# Altium schematic symbol library ALCT_MEZ_SPARTAN6_Library.SchLib: 214 symbols (part 1 of 7)
Pins are listed as number, name and electrical type; pins without a type are passive.

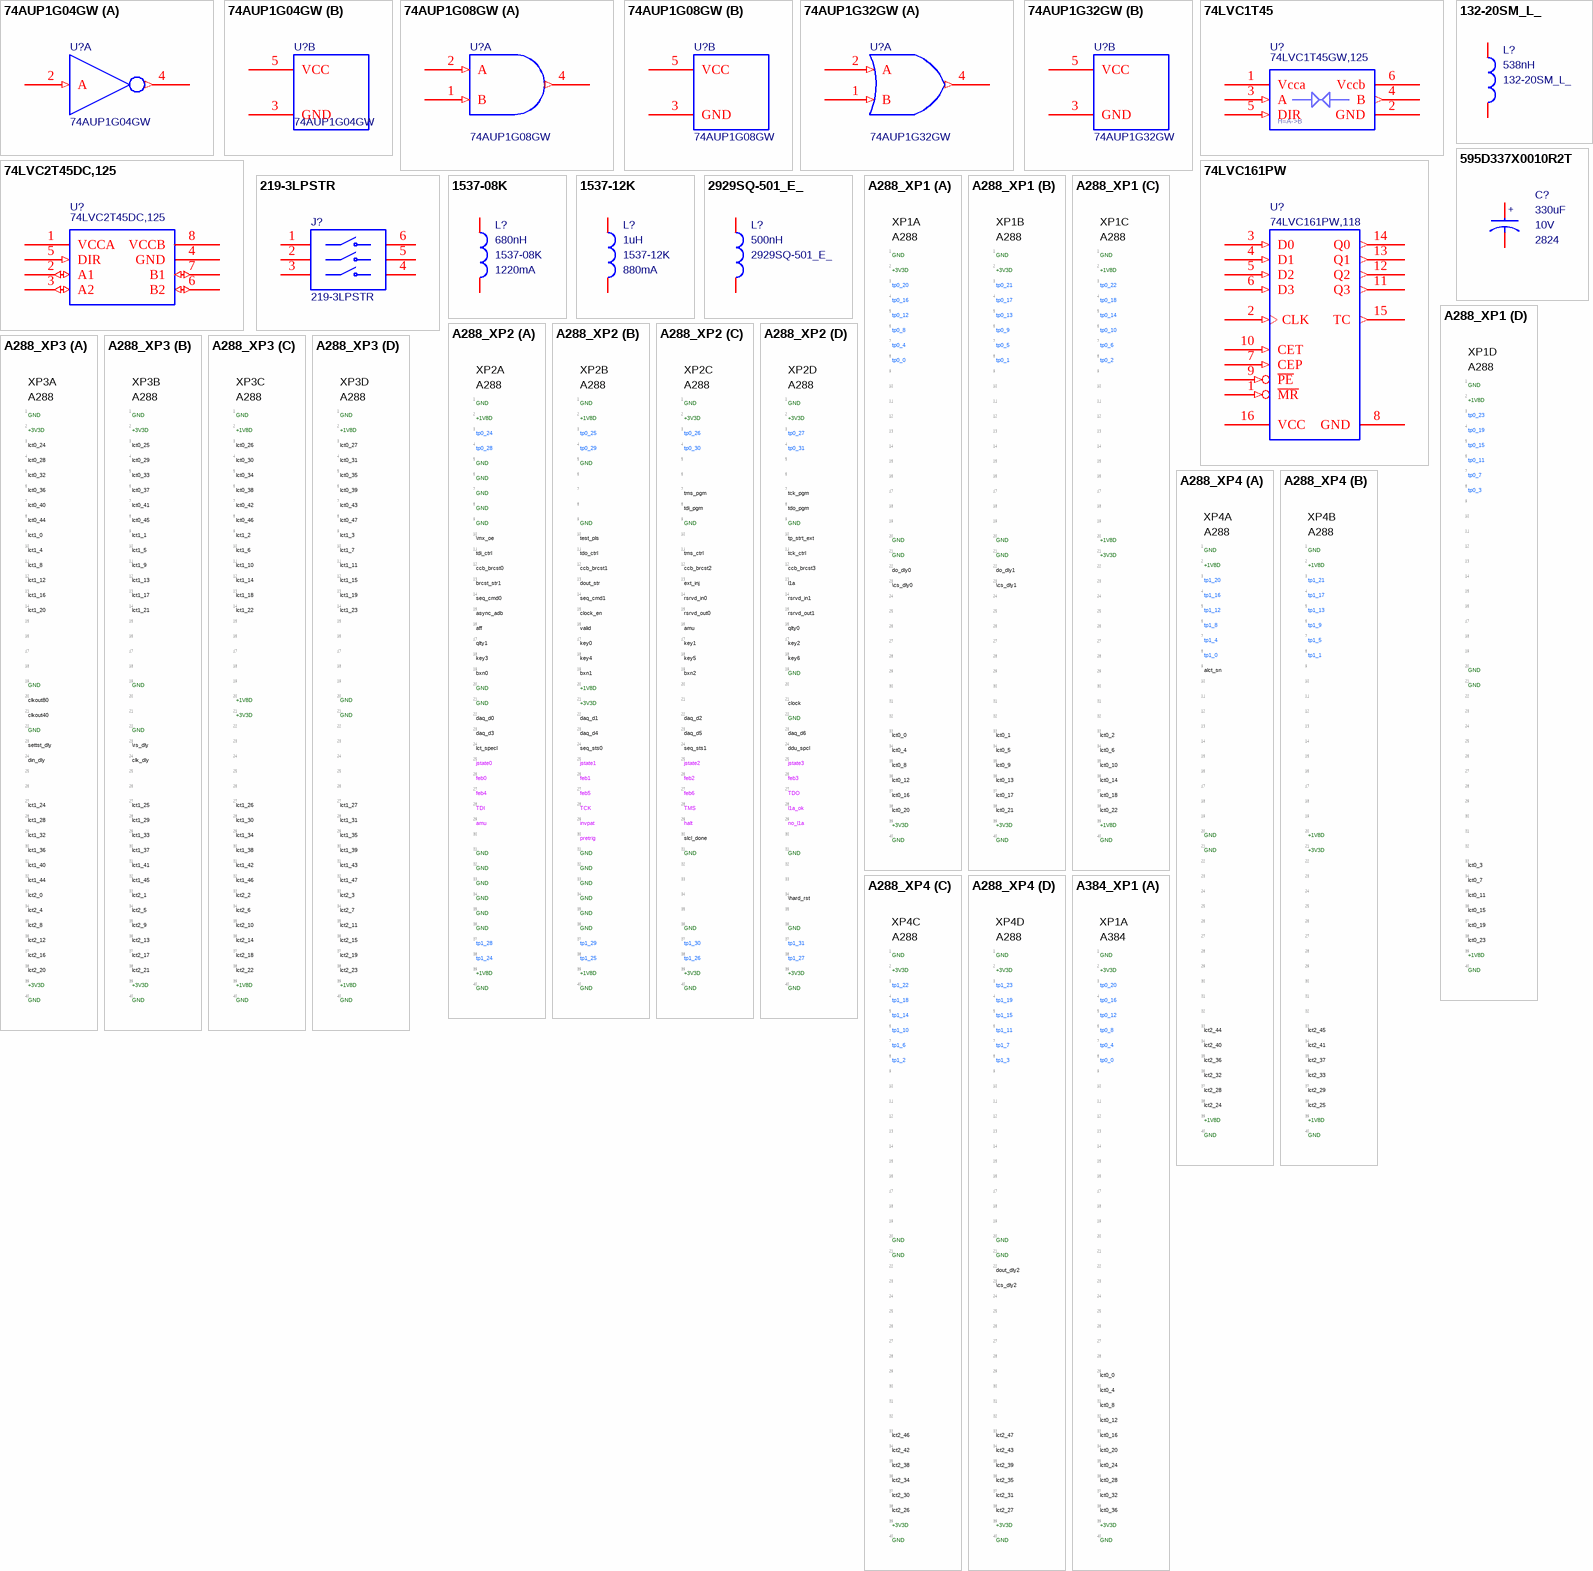
[diagram p0: symbols 74AUP1G04GW to A384_XP1]

## 74AUP1G04GW
designator U?
IC INVERTER LP 5TSSOP; Manufacturer: Nexperia USA Inc.; Manufacturer Part Number: 74AUP1G04GW,125; Number of Inputs: 1; Voltage - Supply: 0.8 V ~ 3.6 V; Current - Output High, Low: 4mA, 4mA; Logic Level - Low: 0.7 V ~ 0.9 V; Logic Level - High: 1.6 V ~ 2 V; Max Propagation Delay @ V, Max CL: 5.4ns @ 3.3V, 30pF; Supplier 1: Digi-Key; RoHS: RoHS Compliant; Category: Integrated Circuits (ICs); Stock 1: 16264; Pricing 1: 1=0.41, 10=0.311, 100=0.1938, 500=0.13258, 1000=0.10198 (USD); Packaging: Cut Tape (CT); Part Status: Active; Logic Type: Inverter; Features: -; Operating Temperature: -40°C ~ 125°C; Mounting Type: Surface Mount; Supplier Device Package: 5-TSSOP; Package / Case: 5-TSSOP, SC-70-5, SOT-353; ComponentLink1URL: http://assets.nexperia.com/documents/data-sheet/74AUP1G04.pdf; ComponentLink1Description: http://assets.nexperia.com/documents/data-sheet/74AUP1G04.pdf; Supplier 2: Digi-Key; Stock 2: 16264; Pricing 2: 1=0.41, 10=0.311, 100=0.1938, 500=0.13258, 1000=0.10198 (USD); Supplier Part Number 1: 1727-3176-1-ND; Supplier Part Number 2: 1727-3176-6-ND
footprint SOT353-1 (SOT23, 5-Leads, Body 2.05x2.25mm, Pitch 0.65mm, IPC Medium Density)
part A pins: 2 A (in), 4 Y (out)
part B pins: 3 GND (power), 5 VCC (power)

## 74AUP1G08GW
designator U?
IC GATE AND 1CH 2-INP 5-TSSOP; Manufacturer: Nexperia USA Inc.; Manufacturer Part Number: 74AUP1G08GW,125; Logic Type: AND Gate; Number of Inputs: 2; Voltage - Supply: 0.8 V ~ 3.6 V; Current - Output High, Low: 4mA, 4mA; Logic Level - Low: 0.7 V ~ 0.9 V; Logic Level - High: 1.6 V ~ 2 V; Max Propagation Delay @ V, Max CL: 6.2ns @ 3.3V, 30pF; Supplier 1: Digi-Key; RoHS: RoHS Compliant; Category: Integrated Circuits (ICs); Stock 1: 0; Pricing 1: 1=0.41, 10=0.311, 100=0.1938, 500=0.13258, 1000=0.10198 (USD); Packaging: Cut Tape (CT); Part Status: Active; Features: -; Operating Temperature: -40°C ~ 125°C; Mounting Type: Surface Mount; Supplier Device Package: 5-TSSOP; Package / Case: 5-TSSOP, SC-70-5, SOT-353; ComponentLink1URL: http://assets.nexperia.com/documents/data-sheet/74AUP1G08.pdf; ComponentLink1Description: http://assets.nexperia.com/documents/data-sheet/74AUP1G08.pdf; Supplier 2: Digi-Key; Stock 2: 0; Pricing 2: 1=0.41, 10=0.311, 100=0.1938, 500=0.13258, 1000=0.10198 (USD); Supplier Part Number 1: 1727-3180-1-ND; Supplier Part Number 2: 1727-3180-6-ND
footprint sot353-1 (SOT23, 5-Leads, Body 2.05x2.25mm, Pitch 0.65mm, IPC Medium Density)
part A pins: 1 B (in), 2 A (in), 4 Y (out)
part B pins: 3 GND (power), 5 VCC (power)

## 74AUP1G32GW
designator U?
IC GATE OR 1CH 2-INP 5-TSSOP; Manufacturer: Nexperia USA Inc.; Manufacturer Part Number: 74AUP1G32GW,125; Logic Type: OR Gate; Number of Inputs: 2; Voltage - Supply: 0.8 V ~ 3.6 V; Current - Output High, Low: 4mA, 4mA; Logic Level - Low: 0.7 V ~ 0.9 V; Logic Level - High: 1.6 V ~ 2 V; Max Propagation Delay @ V, Max CL: 6.4ns @ 3.3V, 30pF; Supplier 1: Digi-Key; RoHS: RoHS Compliant; Category: Integrated Circuits (ICs); Stock 1: 2804; Pricing 1: 1=0.37, 10=0.279, 100=0.1738, 500=0.1189, 1000=0.09146 (USD); Packaging: Cut Tape (CT); Part Status: Active; Features: -; Operating Temperature: -40°C ~ 125°C; Mounting Type: Surface Mount; Supplier Device Package: 5-TSSOP; Package / Case: 5-TSSOP, SC-70-5, SOT-353; ComponentLink1URL: http://assets.nexperia.com/documents/data-sheet/74AUP1G32.pdf; ComponentLink1Description: http://assets.nexperia.com/documents/data-sheet/74AUP1G32.pdf; Supplier 2: Digi-Key; Stock 2: 2804; Pricing 2: 1=0.37, 10=0.279, 100=0.1738, 500=0.1189, 1000=0.09146 (USD); Supplier Part Number 1: 1727-3190-1-ND; Supplier Part Number 2: 1727-3190-6-ND
footprint sot353-1 (SOT23, 5-Leads, Body 2.05x2.25mm, Pitch 0.65mm, IPC Medium Density)
part A pins: 1 B (in), 2 A (in), 4 Y (out)
part B pins: 3 GND (power), 5 VCC (power)

## 74LVC1T45
designator U?, comment 74LVC1T45GW,125
IC BUS TRANSCVR TRI-ST SC70-6; Manufacturer: NXP Semiconductors; Number of Channels: 1; Min Supply Voltage: 1.2V; Max Supply Voltage: 5.5V; Propagation Delay: 48.6ns; Max Power Dissipation: 250mW; Data Rate: 420Mbps; Direction: Bidirectional; Logic Function: Transceiver,Translator; Polarity: Non-Inverting; High Level Output Current: -32mA; Low Level Output Current: 32mA; Quiescent Current: 16uA; Voltage: 5V; ComponentLink1URL: http://www.ti.com/lit/ds/symlink/sn74lvc1t45.pdf; ComponentLink1Description: http://www.ti.com/lit/ds/symlink/sn74lvc1t45.pdf; Supplier 1: Digi-Key; Manufacturer Part Number: 74LVC1T45GW,125; Stock 1: 0; Mount: Surface Mount; Case/Package: TSSOP; Number of Pins: 6; Contact Plating: Tin; Min Operating Temperature: -40°C; Max Operating Temperature: 125°C; Packaging: Tape and Reel; Package Quantity: 3000; Number of Elements: 1; Number of Bits: 1; Turn-On Delay Time: 48.6ns; Max Supply Voltage (DC): 5.5V; Max Voltage Rating (DC): 5.5V; Radiation Hardening: No; REACH SVHC: No SVHC; Lead Free: Lead Free; ComponentLink2URL: https://datasheet.ciiva.com/1898/74lvc-lvch1t45-1898948.pdf; ComponentLink2Description: https://datasheet.ciiva.com/1898/74lvc-lvch1t45-1898948.pdf; ComponentLink3URL: https://datasheet.ciiva.com/1898/74lvc-lvch1t45-1898949.pdf; ComponentLink3Description: https://datasheet.ciiva.com/1898/74lvc-lvch1t45-1898949.pdf; ComponentLink4URL: https://datasheet.ciiva.com/1898/74lvc-lvch1t45-1898950.pdf; ComponentLink4Description: https://datasheet.ciiva.com/1898/74lvc-lvch1t45-1898950.pdf; ComponentLink5URL: https://datasheet.ciiva.com/26940/getdatasheetpartid-436223-26940411.pdf; ComponentLink5Description: https://datasheet.ciiva.com/26940/getdatasheetpartid-436223-26940411.pdf; ComponentLink6URL: https://datasheet.ciiva.com/16222/74lvc-lvch1t45-16222076.pdf; ComponentLink6Description: https://datasheet.ciiva.com/16222/74lvc-lvch1t45-16222076.pdf; Supplier Part Number 1: 1727-4560-1-ND
footprint SOT363 (https://www.nxp.com/docs/en/package-information/SOT363.pdf)
pins: 1 Vcca (power), 2 GND (power), 3 A (in), 4 B (out), 5 DIR (in), 6 Vccb (power)
text: H=A->B

## 74LVC2T45DC,125
designator U?
IC TRNSLTR BIDIRECTIONAL 8VSSOP; Manufacturer: Nexperia USA Inc.; Translator Type: Voltage Level; Channels per Circuit: 2; Output Type: Tri-State, Non-Inverted; Data Rate: 420Mbps; Description: Bus Transceivers 2CHAN 5.5V 250mW; Propagation Delay: 48.6ns; Min Supply Voltage: 1.2V; Max Supply Voltage: 5.5V; Max Power Dissipation: 250mW; Number of Elements: 1; Logic Function: Transceiver,Translator; Turn-On Delay Time: 15.2ns; High Level Output Current: -32mA; Low Level Output Current: 32mA; Quiescent Current: 8uA; Polarity: Non-Inverting; Supplier 1: Digi-Key; Manufacturer Part Number: 74LVC2T45DC,125; RoHS: RoHS Compliant; Category: Integrated Circuits (ICs); Stock 1: 0; Pricing 1: 1=0.58, 10=0.51, 100=0.3909, 500=0.309, 1000=0.2472 (USD); Packaging: Digi-Reel®; Part Status: Active; Channel Type: Bidirectional; Input Signal: -; Output Signal: -; Operating Temperature: -40°C ~ 125°C (TA); Features: -; Mounting Type: Surface Mount; Package / Case: 8-VFSOP (0.091", 2.30mm Width); Supplier Device Package: 8-VSSOP; Base Part Number: 74LVC2T45; ComponentLink1URL: https://assets.nexperia.com/documents/data-sheet/74LVC_LVCH2T45.pdf; ComponentLink1Description: https://assets.nexperia.com/documents/data-sheet/74LVC_LVCH2T45.pdf; Supplier Part Number 1: 1727-4578-6-ND; Mount: Surface Mount; Case/Package: VSSOP; Number of Pins: 8; Contact Plating: Gold; Min Operating Temperature: -40°C; Max Operating Temperature: 125°C; Number of Channels: 2; Package Quantity: 3000; Direction: Bidirectional; Number of Bits: 2; Radiation Hardening: No; REACH SVHC: No SVHC; Lead Free: Lead Free; ComponentLink2URL: https://datasheet.ciiva.com/1900/74lvc-lvch2t45-1900049.pdf; ComponentLink2Description: https://datasheet.ciiva.com/1900/74lvc-lvch2t45-1900049.pdf; ComponentLink3URL: https://datasheet.ciiva.com/1900/74lvc-lvch2t45-1900050.pdf; ComponentLink3Description: https://datasheet.ciiva.com/1900/74lvc-lvch2t45-1900050.pdf; ComponentLink4URL: https://datasheet.ciiva.com/1900/74lvc-lvch2t45-1900051.pdf; ComponentLink4Description: https://datasheet.ciiva.com/1900/74lvc-lvch2t45-1900051.pdf; ComponentLink5URL: https://datasheet.ciiva.com/16406/74lvc-lvch2t45-16406598.pdf; ComponentLink5Description: https://datasheet.ciiva.com/16406/74lvc-lvch2t45-16406598.pdf; ComponentLink6URL: https://datasheet.ciiva.com/4798/74lvc-lvch2t45-4798887.pdf; ComponentLink6Description: https://datasheet.ciiva.com/4798/74lvc-lvch2t45-4798887.pdf; ComponentLink7URL: https://datasheet.ciiva.com/16591/74lvc-lvch2t45-16591338.pdf; ComponentLink7Description: https://datasheet.ciiva.com/16591/74lvc-lvch2t45-16591338.pdf; ComponentLink8URL: https://datasheet.ciiva.com/15086/getdatasheetpartid-422533-15086781.pdf; ComponentLink8Description: https://datasheet.ciiva.com/15086/getdatasheetpartid-422533-15086781.pdf
footprint VSSOP8 SOT765-1 (TSSOP, 8-Leads, Body 2.00x2.30mm, Pitch 0.50mm, IPC Medium Density)
pins: 1 VCCA (power), 2 A1 (io), 3 A2 (io), 4 GND (power), 5 DIR (in), 6 B2 (io), 7 B1 (io), 8 VCCB

## 74LVC161PW
designator U?, comment 74LVC161PW,118
IC SYNC 4BIT BIN COUNTER 16TSSOP; Manufacturer: NXP USA Inc.; Logic Type: Binary Counter; Direction: Up; Number of Elements: 1; Number of Bits per Element: 4; Reset: Asynchronous; Timing: Synchronous; Count Rate: 150MHz; Trigger Type: Positive Edge; Voltage - Supply: 1.2 V ~ 3.6 V; Supplier 1: Digi-Key; Manufacturer Part Number: 74LVC161PW,118; RoHS: RoHS Compliant; Category: Integrated Circuits (ICs); Stock 1: 3261; Pricing 1: 1=0.64, 10=0.561, 100=0.429, 500=0.3399, 1000=0.27225 (USD); Packaging: Cut Tape (CT); Part Status: Active; Operating Temperature: -40°C ~ 125°C; Mounting Type: Surface Mount; Package / Case: 16-TSSOP (0.173", 4.40mm Width); Supplier Device Package: 16-TSSOP; ComponentLink1URL: http://www.nxp.com/documents/data_sheet/74LVC161.pdf; ComponentLink1Description: http://www.nxp.com/documents/data_sheet/74LVC161.pdf; Supplier 2: Digi-Key; Stock 2: 3261; Pricing 2: 1=0.64, 10=0.561, 100=0.429, 500=0.3399, 1000=0.27225 (USD); Supplier Part Number 1: 568-7667-1-ND; Supplier Part Number 2: 568-7667-6-ND; Supplier 3: Digi-Key; Stock 3: 1164; Pricing 3: 1=0.64, 10=0.561, 100=0.43, 500=0.3399, 1000=0.27192 (USD); ComponentLink2URL: http://assets.nexperia.com/documents/data-sheet/74LVC161.pdf; ComponentLink2Description: http://assets.nexperia.com/documents/data-sheet/74LVC161.pdf; Supplier 4: Digi-Key; Stock 4: 1164; Pricing 4: 1=0.64, 10=0.561, 100=0.43, 500=0.3399, 1000=0.27192 (USD); Supplier Part Number 3: 1727-5981-1-ND; Supplier Part Number 4: 1727-5981-6-ND
footprint MC_S6/SM/TSSOP16
ibis 74LVC161
pins: 1 ~{MR} (in), 2 CLK (in), 3 D0 (in), 4 D1 (in), 5 D2 (in), 6 D3 (in), 7 CEP (in), 8 GND (power), 9 ~{PE} (in), 10 CET (in), 11 Q3 (out), 12 Q2 (out), 13 Q1 (out), 14 Q0 (out), 15 TC (out), 16 VCC (power)

## 132-20SM_L_
designator L?, comment 538nH  mfgr_id: 132-20SM_L_
VALUE: 538nH
signal-integrity model IND 538nH (Model Description)
pins: 1, 2

## 219-3LPSTR
designator J?
SWITCH SLIDE DIP SPST 100MA 20V; Manufacturer: CTS Electrocomponents; Number of Positions: 3; Voltage Rating: 20VDC; Actuator Type: Slide (Standard); Actuator Level: Flush, Recessed; Pitch: 0.100" (2.54mm), Full; Washable: Yes; Electrical Life: 2,000 Cycles; Supplier 1: Digi-Key; Manufacturer Part Number: 219-3LPSTR; RoHS: RoHS Compliant; Category: Switches; Stock 1: 5375; Pricing 1: 1=0.83, 10=0.811, 25=0.7644, 50=0.7176, 100=0.6865, 250=0.65528, 500=0.59288 (USD); Packaging: Cut Tape (CT); Part Status: Active; Circuit: SPST; Current Rating: 100mA; Contact Material: Beryllium Copper; Contact Finish: Gold; Height Above Board: 0.160" (4.06mm); Mounting Type: Surface Mount; Termination Style: Gull Wing; Features: Epoxy Sealed Terminals, Tape Seal; Body Material: -; Length: 0.358" (9.09mm); Operating Temperature: -55°C ~ 85°C; Mechanical Life: -; ComponentLink1URL: https://www.ctscorp.com/wp-content/uploads/219.pdf; ComponentLink1Description: https://www.ctscorp.com/wp-content/uploads/219.pdf; Supplier 2: Digi-Key; Stock 2: 5375; Pricing 2: 1=0.83, 10=0.811, 25=0.7644, 50=0.7176, 100=0.6865, 250=0.65528, 500=0.59288 (USD); Supplier Part Number 1: CT3115CT-ND; Supplier Part Number 2: CT3115DKR-ND
footprint 219-3LPSTR (Switch, 3 Position, SMD)
pins: 1, 2, 3, 4, 5, 6

## 595D337X0010R2T
designator C?, comment 330uF  Voltage - Rated: 10V  package: 2824
CAP TANT 330UF 10V 20% 2824; Manufacturer: Vishay Sprague; Manufacturer Part Number: 595D337X0010R2T; Manufacturer Size Code: R; Capacitance: 330µF; Type: Conformal Coated; ESR (Equivalent Series Resistance): 130 mOhm; Supplier 1: Digi-Key; RoHS: RoHS Compliant; Category: Capacitors; Stock 1: 841; Pricing 1: 1=5.71, 10=5.141, 25=4.798, 50=4.4554, 100=3.8842, 250=3.4272 (USD); Packaging: Cut Tape (CT); Part Status: Active; Tolerance: ±20%; Operating Temperature: -55°C ~ 125°C; Lifetime @ Temp.: -; Mounting Type: Surface Mount; Package / Case: 2824 (7260 Metric); Size / Dimension: 0.283" L x 0.236" W (7.20mm x 6.00mm); Height - Seated (Max): 0.148" (3.75mm); Lead Spacing: -; Features: General Purpose; Failure Rate: -; ComponentLink1URL: http://www.vishay.com/docs/40007/595d.pdf; ComponentLink1Description: http://www.vishay.com/docs/40007/595d.pdf; Supplier 2: Digi-Key; Stock 2: 841; Pricing 2: 1=5.71, 10=5.141, 25=4.798, 50=4.4554, 100=3.8842, 250=3.4272 (USD); Supplier Part Number 1: 718-1019-1-ND; Supplier Part Number 2: 718-1019-6-ND; VALUE: 330uF
footprint MC_S6/SM/CT_2824_R
signal-integrity model CAP 330uF (Model Description)
pins: 1, 2
text: +

## 1537-08K
designator L?, comment 680nH  Current Rating: 1220mA  mfgr_id: 1537-08K
IND, Air Core, 680nH, 1220mA, TH; Manufacturer: API Delevan Inc.; Material - Core: Phenolic; Tolerance: ±10%; Shielding: Unshielded; DC Resistance (DCR): 150 mOhm Max; Q @ Freq: 50 @ 25MHz; Notification: QPL or Military Specs are for reference only. Parts are not for military use. See Terms and Conditions.; Supplier 1: Digi-Key; Manufacturer Part Number: 1537-08K; RoHS: RoHS non-compliant; Category: Inductors, Coils, Chokes; Stock 1: 219; Pricing 1: 1=1.07, 10=0.997, 25=0.9208, 50=0.7672, 100=0.7212, 250=0.64444, 500=0.55238 (USD); Packaging: Cut Tape (CT); Part Status: Active; Type: -; Ratings: -; Operating Temperature: -55°C ~ 125°C; Mounting Type: Through Hole; Package / Case: Axial; Supplier Device Package: Axial; Size / Dimension: 0.156" Dia x 0.375" L (3.96mm x 9.53mm); Height - Seated (Max): -; ComponentLink1URL: http://www.delevan.com/seriesPDFs/1537.pdf; ComponentLink1Description: http://www.delevan.com/seriesPDFs/1537.pdf; Supplier Part Number 1: 1134-1087-1-ND
footprint MC_S6/TH/DELEVAN1537
signal-integrity model IND 1U (Model Description)
pins: 1, 2

## 1537-12K
designator L?, comment 1uH  Current Rating: 880mA  mfgr_id: 1537-12K
IND, Air Core, 1uH, 880mA, TH; Manufacturer: API Delevan Inc.; Material - Core: Phenolic; Inductance: 1µH; Tolerance: ±10%; Shielding: Unshielded; DC Resistance (DCR): 290 mOhm Max; Q @ Freq: 50 @ 25MHz; Frequency - Self Resonant: 200MHz; Notification: QPL or Military Specs are for reference only. Parts are not for military use. C of C not provided. See Terms and Conditions.; Supplier 1: Digi-Key; Manufacturer Part Number: 1537-12K; RoHS: RoHS non-compliant; Category: Inductors, Coils, Chokes; Stock 1: 1779; Pricing 1: 1=1.07, 10=0.997, 25=0.9208, 50=0.7672, 100=0.7212, 250=0.64444, 500=0.55238 (USD); Packaging: Cut Tape (CT); Part Status: Active; Type: -; Current - Saturation: -; Ratings: -; Operating Temperature: -55°C ~ 125°C; Mounting Type: Through Hole; Package / Case: Axial; Supplier Device Package: Axial; Size / Dimension: 0.156" Dia x 0.375" L (3.96mm x 9.53mm); Height - Seated (Max): -; ComponentLink1URL: http://www.delevan.com/seriesPDFs/1537.pdf; ComponentLink1Description: http://www.delevan.com/seriesPDFs/1537.pdf; Supplier 2: Digi-Key; Stock 2: 1000; Pricing 2: 1000=0.44, 3000=0.42625, 5000=0.4125, 10000=0.39875, 25000=0.385 (USD); VALUE: 1uH; Supplier Part Number 1: 1134-1088-1-ND; Supplier Part Number 2: 1134-1088-2-ND
footprint MC_S6/TH/DELEVAN1537
signal-integrity model IND 1U (Model Description)
pins: 1, 2

## 2929SQ-501_E_
designator L?, comment 500nH  mfgr_id: 2929SQ-501_E_
IND, Air Core, 500nH SM; VALUE: 500nH
footprint MC_S6/SM/2929SQ-501-E
signal-integrity model IND 500nH (Model Description)
pins: 1, 2

## A288_XP1
designator XP1  (value not drawn)  (graphical)
mfgr_id: MOLC-140-01-S-Q-LC; mfgr: Samtec; mfgr_foot: 40x4; COMPROT: 180; COMPGROUP: 0; COMPSIDE: TOP; Package: XP1
part A text: XP1A; A288; 1; GND; 2; +3V3D; 3; tp0_20; 4; tp0_16; 5; tp0_12; 6; tp0_8; 7; tp0_4; 8; tp0_0; 9; 10; 11; 12; 13; 14; 15; 16; 17; 18; 19; 20; 21; 22; do_dly0; 23; \cs_dly0; 24; 25; 26; 27; 28; 29; 30; 31; 32; 33; lct0_0; 34; lct0_4; 35; lct0_8; 36; lct0_12; 37; lct0_16; 38; lct0_20; 39; 40
part B text: XP1B; A288; 1; GND; 2; +3V3D; 3; tp0_21; 4; tp0_17; 5; tp0_13; 6; tp0_9; 7; tp0_5; 8; tp0_1; 9; 10; 11; 12; 13; 14; 15; 16; 17; 18; 19; 20; 21; 22; do_dly1; 23; \cs_dly1; 24; 25; 26; 27; 28; 29; 30; 31; 32; 33; lct0_1; 34; lct0_5; 35; lct0_9; 36; lct0_13; 37; lct0_17; 38; lct0_21; 39; 40
part C text: XP1C; A288; 1; GND; 2; +1V8D; 3; tp0_22; 4; tp0_18; 5; tp0_14; 6; tp0_10; 7; tp0_6; 8; tp0_2; 9; 10; 11; 12; 13; 14; 15; 16; 17; 18; 19; 20; 21; +3V3D; 22; 23; 24; 25; 26; 27; 28; 29; 30; 31; 32; 33; lct0_2; 34; lct0_6; 35; lct0_10; 36; lct0_14; 37; lct0_18; 38; lct0_22; 39; 40
part D text: XP1D; A288; 1; GND; 2; +1V8D; 3; tp0_23; 4; tp0_19; 5; tp0_15; 6; tp0_11; 7; tp0_7; 8; tp0_3; 9; 10; 11; 12; 13; 14; 15; 16; 17; 18; 19; 20; 21; 22; 23; 24; 25; 26; 27; 28; 29; 30; 31; 32; 33; lct0_3; 34; lct0_7; 35; lct0_11; 36; lct0_15; 37; lct0_19; 38; lct0_23; 39; 40

## A288_XP2
designator XP2  (value not drawn)  (graphical)
mfgr_id: MOLC-140-01-S-Q-LC; mfgr: Samtec; mfgr_foot: 40x4; COMPROT: 180; COMPGROUP: 0; COMPSIDE: TOP; Package: XP2
part A text: XP2A; A288; 1; GND; 2; +1V8D; 3; tp0_24; 4; tp0_28; 5; 6; 7; 8; 9; 10; \mx_oe; 11; tdi_ctrl; 12; ccb_brcst0; 13; brcst_str1; 14; seq_cmd0; 15; async_adb; 16; aff; 17; qlty1; 18; key3; 19; bxn0; 20; 21; 22; daq_d0; 23; daq_d3; 24; lct_specl; 25; jstate0; 26; feb0; 27; feb4; 28; TDI; 29; amu; 30; 31; 32; 33; 34; 35; 36; 37; tp1_28; 38; tp1_24; 39; 40
part B text: XP2B; A288; 1; GND; 2; +1V8D; 3; tp0_25; 4; tp0_29; 5; 6; 7; 8; 9; 10; test_pls; 11; tdo_ctrl; 12; ccb_brcst1; 13; dout_str; 14; seq_cmd1; 15; clock_en; 16; valid; 17; key0; 18; key4; 19; bxn1; 20; 21; +3V3D; 22; daq_d1; 23; daq_d4; 24; seq_sts0; 25; jstate1; 26; feb1; 27; feb5; 28; TCK; 29; invpat; 30; pretrig; 31; 32; 33; 34; 35; 36; 37; tp1_29; 38; tp1_25; 39; 40
part C text: XP2C; A288; 1; GND; 2; +3V3D; 3; tp0_26; 4; tp0_30; 5; 6; 7; tms_pgm; 8; tdi_pgm; 9; 10; 11; tms_ctrl; 12; ccb_brcst2; 13; ext_inj; 14; rsrvd_in0; 15; rsrvd_out0; 16; amu; 17; key1; 18; key5; 19; bxn2; 20; 21; 22; daq_d2; 23; daq_d5; 24; seq_sts1; 25; jstate2; 26; feb2; 27; feb6; 28; TMS; 29; halt; 30; slcl_done; 31; 32; 33; 34; 35; 36; 37; tp1_30; 38; tp1_26; 39; 40
part D text: XP2D; A288; 1; GND; 2; +3V3D; 3; tp0_27; 4; tp0_31; 5; 6; 7; tck_pgm; 8; tdo_pgm; 9; 10; tp_strt_ext; 11; tck_ctrl; 12; ccb_brcst3; 13; l1a; 14; rsrvd_in1; 15; rsrvd_out1; 16; qlty0; 17; key2; 18; key6; 19; 20; 21; clock; 22; 23; daq_d6; 24; ddu_spcl; 25; jstate3; 26; feb3; 27; TDO; 28; l1a_ok; 29; no_l1a; 30; 31; 32; 33; 34; \hard_rst; 35; 36; 37; tp1_31; 38; tp1_27; 39; 40

## A288_XP3
designator XP3  (value not drawn)  (graphical)
mfgr_id: MOLC-140-01-S-Q-LC; mfgr: Samtec; mfgr_foot: 40x4; COMPROT: 180; COMPGROUP: 0; COMPSIDE: TOP; Package: XP3
part A text: XP3A; A288; 1; GND; 2; +3V3D; 3; lct0_24; 4; lct0_28; 5; lct0_32; 6; lct0_36; 7; lct0_40; 8; lct0_44; 9; lct1_0; 10; lct1_4; 11; lct1_8; 12; lct1_12; 13; lct1_16; 14; lct1_20; 15; 16; 17; 18; 19; 20; clkout80; 21; clkout40; 22; 23; settst_dly; 24; din_dly; 25; 26; 27; lct1_24; 28; lct1_28; 29; lct1_32; 30; lct1_36; 31; lct1_40; 32; lct1_44; 33; lct2_0; 34; lct2_4; 35; lct2_8; 36; lct2_12; 37; lct2_16; 38; lct2_20; 39; 40
part B text: XP3B; A288; 1; GND; 2; +3V3D; 3; lct0_25; 4; lct0_29; 5; lct0_33; 6; lct0_37; 7; lct0_41; 8; lct0_45; 9; lct1_1; 10; lct1_5; 11; lct1_9; 12; lct1_13; 13; lct1_17; 14; lct1_21; 15; 16; 17; 18; 19; 20; 21; 22; 23; \rs_dly; 24; clk_dly; 25; 26; 27; lct1_25; 28; lct1_29; 29; lct1_33; 30; lct1_37; 31; lct1_41; 32; lct1_45; 33; lct2_1; 34; lct2_5; 35; lct2_9; 36; lct2_13; 37; lct2_17; 38; lct2_21; 39; 40
part C text: XP3C; A288; 1; GND; 2; +1V8D; 3; lct0_26; 4; lct0_30; 5; lct0_34; 6; lct0_38; 7; lct0_42; 8; lct0_46; 9; lct1_2; 10; lct1_6; 11; lct1_10; 12; lct1_14; 13; lct1_18; 14; lct1_22; 15; 16; 17; 18; 19; 20; 21; +3V3D; 22; 23; 24; 25; 26; 27; lct1_26; 28; lct1_30; 29; lct1_34; 30; lct1_38; 31; lct1_42; 32; lct1_46; 33; lct2_2; 34; lct2_6; 35; lct2_10; 36; lct2_14; 37; lct2_18; 38; lct2_22; 39; 40
part D text: XP3D; A288; 1; GND; 2; +1V8D; 3; lct0_27; 4; lct0_31; 5; lct0_35; 6; lct0_39; 7; lct0_43; 8; lct0_47; 9; lct1_3; 10; lct1_7; 11; lct1_11; 12; lct1_15; 13; lct1_19; 14; lct1_23; 15; 16; 17; 18; 19; 20; 21; 22; 23; 24; 25; 26; 27; lct1_27; 28; lct1_31; 29; lct1_35; 30; lct1_39; 31; lct1_43; 32; lct1_47; 33; lct2_3; 34; lct2_7; 35; lct2_11; 36; lct2_15; 37; lct2_19; 38; lct2_23; 39; 40

## A288_XP4
designator XP4  (value not drawn)  (graphical)
mfgr_id: MOLC-140-01-S-Q-LC; mfgr: Samtec; mfgr_foot: 40x4; COMPROT: 180; COMPGROUP: 0; COMPSIDE: TOP; Package: XP4
part A text: XP4A; A288; 1; GND; 2; +1V8D; 3; tp1_20; 4; tp1_16; 5; tp1_12; 6; tp1_8; 7; tp1_4; 8; tp1_0; 9; alct_sn; 10; 11; 12; 13; 14; 15; 16; 17; 18; 19; 20; 21; 22; 23; 24; 25; 26; 27; 28; 29; 30; 31; 32; 33; lct2_44; 34; lct2_40; 35; lct2_36; 36; lct2_32; 37; lct2_28; 38; lct2_24; 39; 40
part B text: XP4B; A288; 1; GND; 2; +1V8D; 3; tp1_21; 4; tp1_17; 5; tp1_13; 6; tp1_9; 7; tp1_5; 8; tp1_1; 9; 10; 11; 12; 13; 14; 15; 16; 17; 18; 19; 20; 21; +3V3D; 22; 23; 24; 25; 26; 27; 28; 29; 30; 31; 32; 33; lct2_45; 34; lct2_41; 35; lct2_37; 36; lct2_33; 37; lct2_29; 38; lct2_25; 39; 40
part C text: XP4C; A288; 1; GND; 2; +3V3D; 3; tp1_22; 4; tp1_18; 5; tp1_14; 6; tp1_10; 7; tp1_6; 8; tp1_2; 9; 10; 11; 12; 13; 14; 15; 16; 17; 18; 19; 20; 21; 22; 23; 24; 25; 26; 27; 28; 29; 30; 31; 32; 33; lct2_46; 34; lct2_42; 35; lct2_38; 36; lct2_34; 37; lct2_30; 38; lct2_26; 39; 40
part D text: XP4D; A288; 1; GND; 2; +3V3D; 3; tp1_23; 4; tp1_19; 5; tp1_15; 6; tp1_11; 7; tp1_7; 8; tp1_3; 9; 10; 11; 12; 13; 14; 15; 16; 17; 18; 19; 20; 21; 22; dout_dly2; 23; \cs_dly2; 24; 25; 26; 27; 28; 29; 30; 31; 32; 33; lct2_47; 34; lct2_43; 35; lct2_39; 36; lct2_35; 37; lct2_31; 38; lct2_27; 39; 40

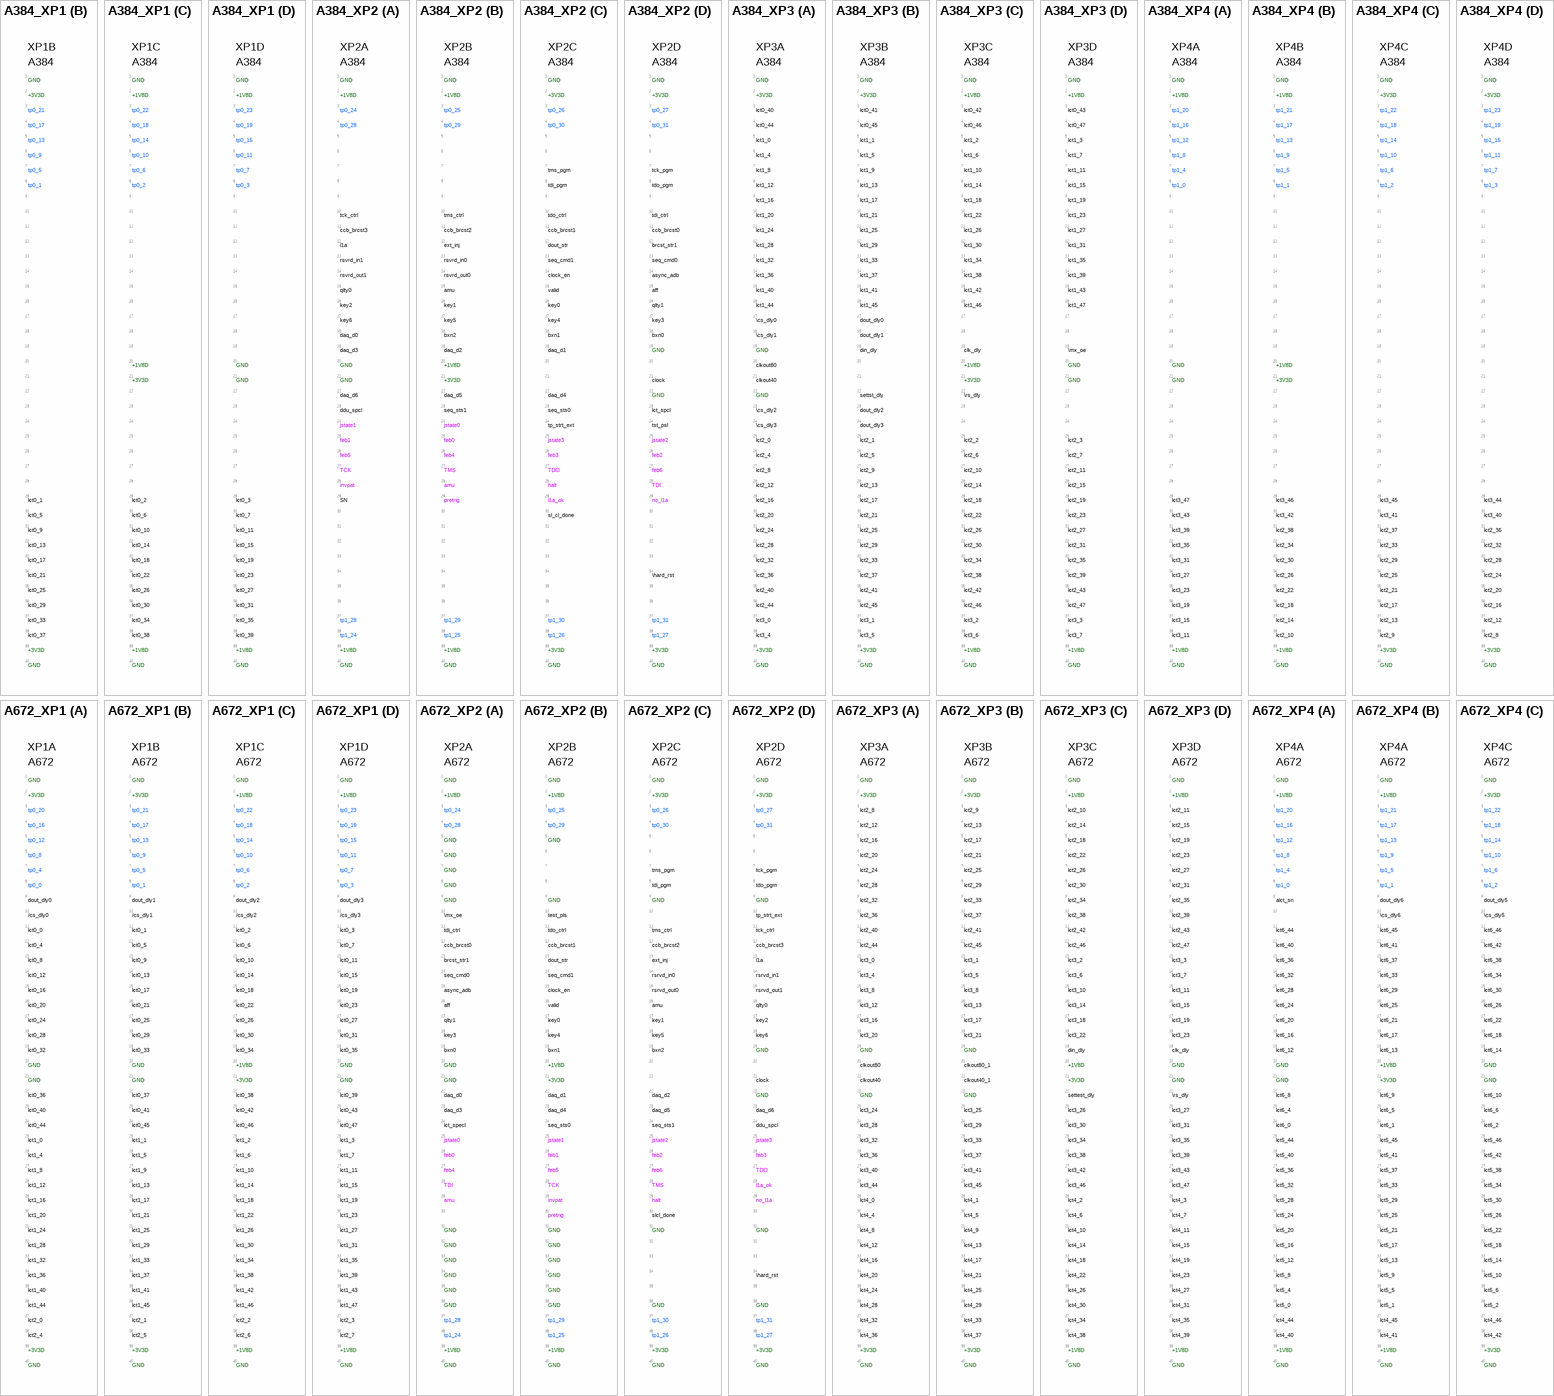
[diagram p1: symbols A384_XP1 to A672_XP4]

## A384_XP1
designator XP1  (value not drawn)  (graphical)
mfgr_id: MOLC-140-01-S-Q-LC; mfgr: Samtec; mfgr_foot: 40x4; COMPROT: 180; COMPGROUP: 0; COMPSIDE: TOP; Package: XP1
part A text: XP1A; A384; 1; GND; 2; +3V3D; 3; tp0_20; 4; tp0_16; 5; tp0_12; 6; tp0_8; 7; tp0_4; 8; tp0_0; 9; 10; 11; 12; 13; 14; 15; 16; 17; 18; 19; 20; 21; 22; 23; 24; 25; 26; 27; 28; 29; lct0_0; 30; lct0_4; 31; lct0_8; 32; lct0_12; 33; lct0_16; 34; lct0_20; 35; lct0_24; 36; lct0_28; 37; lct0_32; 38; lct0_36; 39; 40
part B text: XP1B; A384; 1; GND; 2; +3V3D; 3; tp0_21; 4; tp0_17; 5; tp0_13; 6; tp0_9; 7; tp0_5; 8; tp0_1; 9; 10; 11; 12; 13; 14; 15; 16; 17; 18; 19; 20; 21; 22; 23; 24; 25; 26; 27; 28; 29; lct0_1; 30; lct0_5; 31; lct0_9; 32; lct0_13; 33; lct0_17; 34; lct0_21; 35; lct0_25; 36; lct0_29; 37; lct0_33; 38; lct0_37; 39; 40
part C text: XP1C; A384; 1; GND; 2; +1V8D; 3; tp0_22; 4; tp0_18; 5; tp0_14; 6; tp0_10; 7; tp0_6; 8; tp0_2; 9; 10; 11; 12; 13; 14; 15; 16; 17; 18; 19; 20; 21; +3V3D; 22; 23; 24; 25; 26; 27; 28; 29; lct0_2; 30; lct0_6; 31; lct0_10; 32; lct0_14; 33; lct0_18; 34; lct0_22; 35; lct0_26; 36; lct0_30; 37; lct0_34; 38; lct0_38; 39; 40
part D text: XP1D; A384; 1; GND; 2; +1V8D; 3; tp0_23; 4; tp0_19; 5; tp0_15; 6; tp0_11; 7; tp0_7; 8; tp0_3; 9; 10; 11; 12; 13; 14; 15; 16; 17; 18; 19; 20; 21; 22; 23; 24; 25; 26; 27; 28; 29; lct0_3; 30; lct0_7; 31; lct0_11; 32; lct0_15; 33; lct0_19; 34; lct0_23; 35; lct0_27; 36; lct0_31; 37; lct0_35; 38; lct0_39; 39; 40

## A384_XP2
designator XP2  (value not drawn)  (graphical)
mfgr_id: MOLC-140-01-S-Q-LC; mfgr: Samtec; mfgr_foot: 40x4; COMPROT: 180; COMPGROUP: 0; COMPSIDE: TOP; Package: XP2
part A text: XP2A; A384; 1; GND; 2; +1V8D; 3; tp0_24; 4; tp0_28; 5; 6; 7; 8; 9; 10; tck_ctrl; 11; ccb_brcst3; 12; l1a; 13; rsvrd_in1; 14; rsvrd_out1; 15; qlty0; 16; key2; 17; key6; 18; daq_d0; 19; daq_d3; 20; 21; 22; daq_d6; 23; ddu_spcl; 24; jstate1; 25; feb1; 26; feb5; 27; TCK; 28; invpat; 29; SN; 30; 31; 32; 33; 34; 35; 36; 37; tp1_28; 38; tp1_24; 39; 40
part B text: XP2B; A384; 1; GND; 2; +1V8D; 3; tp0_25; 4; tp0_29; 5; 6; 7; 8; 9; 10; tms_ctrl; 11; ccb_brcst2; 12; ext_inj; 13; rsvrd_in0; 14; rsvrd_out0; 15; amu; 16; key1; 17; key5; 18; bxn2; 19; daq_d2; 20; 21; +3V3D; 22; daq_d5; 23; seq_sts1; 24; jstate0; 25; feb0; 26; feb4; 27; TMS; 28; 29; pretrig; 30; 31; 32; 33; 34; 35; 36; 37; tp1_29; 38; tp1_25; 39; 40
part C text: XP2C; A384; 1; GND; 2; +3V3D; 3; tp0_26; 4; tp0_30; 5; 6; 7; tms_pgm; 8; tdi_pgm; 9; 10; tdo_ctrl; 11; ccb_brcst1; 12; dout_str; 13; seq_cmd1; 14; clock_en; 15; valid; 16; key0; 17; key4; 18; bxn1; 19; daq_d1; 20; 21; 22; daq_d4; 23; seq_sts0; 24; tp_strt_ext; 25; jstate3; 26; feb3; 27; TDO; 28; halt; 29; l1a_ok; 30; sl_cl_done; 31; 32; 33; 34; 35; 36; 37; tp1_30; 38; tp1_26; 39; 40
part D text: XP2D; A384; 1; GND; 2; +3V3D; 3; tp0_27; 4; tp0_31; 5; 6; 7; tck_pgm; 8; tdo_pgm; 9; 10; tdi_ctrl; 11; ccb_brcst0; 12; brcst_str1; 13; seq_cmd0; 14; async_adb; 15; aff; 16; qlty1; 17; key3; 18; bxn0; 19; 20; 21; clock; 22; 23; lct_spcl; 24; tst_psl; 25; jstate2; 26; feb2; 27; feb6; 28; TDI; 29; no_l1a; 30; 31; 32; 33; 34; \hard_rst; 35; 36; 37; tp1_31; 38; tp1_27; 39; 40

## A384_XP3
designator XP3  (value not drawn)  (graphical)
mfgr_id: MOLC-140-01-S-Q-LC; mfgr: Samtec; mfgr_foot: 40x4; COMPROT: 180; COMPGROUP: 0; COMPSIDE: TOP; Package: XP3
part A text: XP3A; A384; 1; GND; 2; +3V3D; 3; lct0_40; 4; lct0_44; 5; lct1_0; 6; lct1_4; 7; lct1_8; 8; lct1_12; 9; lct1_16; 10; lct1_20; 11; lct1_24; 12; lct1_28; 13; lct1_32; 14; lct1_36; 15; lct1_40; 16; lct1_44; 17; \cs_dly0; 18; \cs_dly1; 19; 20; clkout80; 21; clkout40; 22; 23; \cs_dly2; 24; \cs_dly3; 25; lct2_0; 26; lct2_4; 27; lct2_8; 28; lct2_12; 29; lct2_16; 30; lct2_20; 31; lct2_24; 32; lct2_28; 33; lct2_32; 34; lct2_36; 35; lct2_40; 36; lct2_44; 37; lct3_0; 38; lct3_4; 39; 40
part B text: XP3B; A384; 1; GND; 2; +3V3D; 3; lct0_41; 4; lct0_45; 5; lct1_1; 6; lct1_5; 7; lct1_9; 8; lct1_13; 9; lct1_17; 10; lct1_21; 11; lct1_25; 12; lct1_29; 13; lct1_33; 14; lct1_37; 15; lct1_41; 16; lct1_45; 17; dout_dly0; 18; dout_dly1; 19; din_dly; 20; 21; 22; settst_dly; 23; dout_dly2; 24; dout_dly3; 25; lct2_1; 26; lct2_5; 27; lct2_9; 28; lct2_13; 29; lct2_17; 30; lct2_21; 31; lct2_25; 32; lct2_29; 33; lct2_33; 34; lct2_37; 35; lct2_41; 36; lct2_45; 37; lct3_1; 38; lct3_5; 39; 40
part C text: XP3C; A384; 1; GND; 2; +1V8D; 3; lct0_42; 4; lct0_46; 5; lct1_2; 6; lct1_6; 7; lct1_10; 8; lct1_14; 9; lct1_18; 10; lct1_22; 11; lct1_26; 12; lct1_30; 13; lct1_34; 14; lct1_38; 15; lct1_42; 16; lct1_46; 17; 18; 19; clk_dly; 20; 21; +3V3D; 22; \rs_dly; 23; 24; 25; lct2_2; 26; lct2_6; 27; lct2_10; 28; lct2_14; 29; lct2_18; 30; lct2_22; 31; lct2_26; 32; lct2_30; 33; lct2_34; 34; lct2_38; 35; lct2_42; 36; lct2_46; 37; lct3_2; 38; lct3_6; 39; 40
part D text: XP3D; A384; 1; GND; 2; +1V8D; 3; lct0_43; 4; lct0_47; 5; lct1_3; 6; lct1_7; 7; lct1_11; 8; lct1_15; 9; lct1_19; 10; lct1_23; 11; lct1_27; 12; lct1_31; 13; lct1_35; 14; lct1_39; 15; lct1_43; 16; lct1_47; 17; 18; 19; \mx_oe; 20; 21; 22; 23; 24; 25; lct2_3; 26; lct2_7; 27; lct2_11; 28; lct2_15; 29; lct2_19; 30; lct2_23; 31; lct2_27; 32; lct2_31; 33; lct2_35; 34; lct2_39; 35; lct2_43; 36; lct2_47; 37; lct3_3; 38; lct3_7; 39; 40

## A384_XP4
designator XP4  (value not drawn)  (graphical)
mfgr_id: MOLC-140-01-S-Q-LC; mfgr: Samtec; mfgr_foot: 40x4; COMPROT: 180; COMPGROUP: 0; COMPSIDE: TOP; Package: XP4
part A text: XP4A; A384; 1; GND; 2; +1V8D; 3; tp1_20; 4; tp1_16; 5; tp1_12; 6; tp1_8; 7; tp1_4; 8; tp1_0; 9; 10; 11; 12; 13; 14; 15; 16; 17; 18; 19; 20; 21; 22; 23; 24; 25; 26; 27; 28; 29; lct3_47; 30; lct3_43; 31; lct3_39; 32; lct3_35; 33; lct3_31; 34; lct3_27; 35; lct3_23; 36; lct3_19; 37; lct3_15; 38; lct3_11; 39; 40
part B text: XP4B; A384; 1; GND; 2; +1V8D; 3; tp1_21; 4; tp1_17; 5; tp1_13; 6; tp1_9; 7; tp1_5; 8; tp1_1; 9; 10; 11; 12; 13; 14; 15; 16; 17; 18; 19; 20; 21; +3V3D; 22; 23; 24; 25; 26; 27; 28; 29; lct3_46; 30; lct3_42; 31; lct2_38; 32; lct2_34; 33; lct2_30; 34; lct2_26; 35; lct2_22; 36; lct2_18; 37; lct2_14; 38; lct2_10; 39; 40
part C text: XP4C; A384; 1; GND; 2; +3V3D; 3; tp1_22; 4; tp1_18; 5; tp1_14; 6; tp1_10; 7; tp1_6; 8; tp1_2; 9; 10; 11; 12; 13; 14; 15; 16; 17; 18; 19; 20; 21; 22; 23; 24; 25; 26; 27; 28; 29; lct3_45; 30; lct3_41; 31; lct2_37; 32; lct2_33; 33; lct2_29; 34; lct2_25; 35; lct2_21; 36; lct2_17; 37; lct2_13; 38; lct2_9; 39; 40
part D text: XP4D; A384; 1; GND; 2; +3V3D; 3; tp1_23; 4; tp1_19; 5; tp1_15; 6; tp1_11; 7; tp1_7; 8; tp1_3; 9; 10; 11; 12; 13; 14; 15; 16; 17; 18; 19; 20; 21; 22; 23; 24; 25; 26; 27; 28; 29; lct3_44; 30; lct3_40; 31; lct2_36; 32; lct2_32; 33; lct2_28; 34; lct2_24; 35; lct2_20; 36; lct2_16; 37; lct2_12; 38; lct2_8; 39; 40

## A672_XP1
designator XP1  (value not drawn)  (graphical)
mfgr_id: MOLC-140-01-S-Q-LC; mfgr: Samtec; mfgr_foot: 40x4; COMPROT: 180; COMPGROUP: 0; COMPSIDE: TOP; Package: XP1
part A text: XP1A; A672; 1; GND; 2; +3V3D; 3; tp0_20; 4; tp0_16; 5; tp0_12; 6; tp0_8; 7; tp0_4; 8; tp0_0; 9; dout_dly0; 10; /cs_dly0; 11; lct0_0; 12; lct0_4; 13; lct0_8; 14; lct0_12; 15; lct0_16; 16; lct0_20; 17; lct0_24; 18; lct0_28; 19; lct0_32; 20; 21; 22; lct0_36; 23; lct0_40; 24; lct0_44; 25; lct1_0; 26; lct1_4; 27; lct1_8; 28; lct1_12; 29; lct1_16; 30; lct1_20; 31; lct1_24; 32; lct1_28; 33; lct1_32; 34; lct1_36; 35; lct1_40; 36; lct1_44; 37; lct2_0; 38; lct2_4; 39; 40
part B text: XP1B; A672; 1; GND; 2; +3V3D; 3; tp0_21; 4; tp0_17; 5; tp0_13; 6; tp0_9; 7; tp0_5; 8; tp0_1; 9; dout_dly1; 10; /cs_dly1; 11; lct0_1; 12; lct0_5; 13; lct0_9; 14; lct0_13; 15; lct0_17; 16; lct0_21; 17; lct0_25; 18; lct0_29; 19; lct0_33; 20; 21; 22; lct0_37; 23; lct0_41; 24; lct0_45; 25; lct1_1; 26; lct1_5; 27; lct1_9; 28; lct1_13; 29; lct1_17; 30; lct1_21; 31; lct1_25; 32; lct1_29; 33; lct1_33; 34; lct1_37; 35; lct1_41; 36; lct1_45; 37; lct2_1; 38; lct2_5; 39; 40
part C text: XP1C; A672; 1; GND; 2; +1V8D; 3; tp0_22; 4; tp0_18; 5; tp0_14; 6; tp0_10; 7; tp0_6; 8; tp0_2; 9; dout_dly2; 10; /cs_dly2; 11; lct0_2; 12; lct0_6; 13; lct0_10; 14; lct0_14; 15; lct0_18; 16; lct0_22; 17; lct0_26; 18; lct0_30; 19; lct0_34; 20; 21; +3V3D; 22; lct0_38; 23; lct0_42; 24; lct0_46; 25; lct1_2; 26; lct1_6; 27; lct1_10; 28; lct1_14; 29; lct1_18; 30; lct1_22; 31; lct1_26; 32; lct1_30; 33; lct1_34; 34; lct1_38; 35; lct1_42; 36; lct1_46; 37; lct2_2; 38; lct2_6; 39; 40
part D text: XP1D; A672; 1; GND; 2; +1V8D; 3; tp0_23; 4; tp0_19; 5; tp0_15; 6; tp0_11; 7; tp0_7; 8; tp0_3; 9; dout_dly3; 10; /cs_dly3; 11; lct0_3; 12; lct0_7; 13; lct0_11; 14; lct0_15; 15; lct0_19; 16; lct0_23; 17; lct0_27; 18; lct0_31; 19; lct0_35; 20; 21; 22; lct0_39; 23; lct0_43; 24; lct0_47; 25; lct1_3; 26; lct1_7; 27; lct1_11; 28; lct1_15; 29; lct1_19; 30; lct1_23; 31; lct1_27; 32; lct1_31; 33; lct1_35; 34; lct1_39; 35; lct1_43; 36; lct1_47; 37; lct2_3; 38; lct2_7; 39; 40

## A672_XP2
designator XP2  (value not drawn)  (graphical)
mfgr_id: MOLC-140-01-S-Q-LC; mfgr: Samtec; mfgr_foot: 40x4; COMPROT: 180; COMPGROUP: 0; COMPSIDE: TOP; Package: XP2
part A text: XP2A; A672; 1; GND; 2; +1V8D; 3; tp0_24; 4; tp0_28; 5; 6; 7; 8; 9; 10; \mx_oe; 11; tdi_ctrl; 12; ccb_brcst0; 13; brcst_str1; 14; seq_cmd0; 15; async_adb; 16; aff; 17; qlty1; 18; key3; 19; bxn0; 20; 21; 22; daq_d0; 23; daq_d3; 24; lct_specl; 25; jstate0; 26; feb0; 27; feb4; 28; TDI; 29; amu; 30; 31; 32; 33; 34; 35; 36; 37; tp1_28; 38; tp1_24; 39; 40
part B text: XP2B; A672; 1; GND; 2; +1V8D; 3; tp0_25; 4; tp0_29; 5; 6; 7; 8; 9; 10; test_pls; 11; tdo_ctrl; 12; ccb_brcst1; 13; dout_str; 14; seq_cmd1; 15; clock_en; 16; valid; 17; key0; 18; key4; 19; bxn1; 20; 21; +3V3D; 22; daq_d1; 23; daq_d4; 24; seq_sts0; 25; jstate1; 26; feb1; 27; feb5; 28; TCK; 29; invpat; 30; pretrig; 31; 32; 33; 34; 35; 36; 37; tp1_29; 38; tp1_25; 39; 40
part C text: XP2C; A672; 1; GND; 2; +3V3D; 3; tp0_26; 4; tp0_30; 5; 6; 7; tms_pgm; 8; tdi_pgm; 9; 10; 11; tms_ctrl; 12; ccb_brcst2; 13; ext_inj; 14; rsrvd_in0; 15; rsrvd_out0; 16; amu; 17; key1; 18; key5; 19; bxn2; 20; 21; 22; daq_d2; 23; daq_d5; 24; seq_sts1; 25; jstate2; 26; feb2; 27; feb6; 28; TMS; 29; halt; 30; slcl_done; 31; 32; 33; 34; 35; 36; 37; tp1_30; 38; tp1_26; 39; 40
part D text: XP2D; A672; 1; GND; 2; +3V3D; 3; tp0_27; 4; tp0_31; 5; 6; 7; tck_pgm; 8; tdo_pgm; 9; 10; tp_strt_ext; 11; tck_ctrl; 12; ccb_brcst3; 13; l1a; 14; rsrvd_in1; 15; rsrvd_out1; 16; qlty0; 17; key2; 18; key6; 19; 20; 21; clock; 22; 23; daq_d6; 24; ddu_spcl; 25; jstate3; 26; feb3; 27; TDO; 28; l1a_ok; 29; no_l1a; 30; 31; 32; 33; 34; \hard_rst; 35; 36; 37; tp1_31; 38; tp1_27; 39; 40

## A672_XP3
designator XP3  (value not drawn)  (graphical)
mfgr_id: MOLC-140-01-S-Q-LC; mfgr: Samtec; mfgr_foot: 40x4; COMPROT: 180; COMPGROUP: 0; COMPSIDE: TOP; Package: XP3
part A text: XP3A; A672; 1; GND; 2; +3V3D; 3; lct2_8; 4; lct2_12; 5; lct2_16; 6; lct2_20; 7; lct2_24; 8; lct2_28; 9; lct2_32; 10; lct2_36; 11; lct2_40; 12; lct2_44; 13; lct3_0; 14; lct3_4; 15; lct3_8; 16; lct3_12; 17; lct3_16; 18; lct3_20; 19; 20; clkout80; 21; clkout40; 22; 23; lct3_24; 24; lct3_28; 25; lct3_32; 26; lct3_36; 27; lct3_40; 28; lct3_44; 29; lct4_0; 30; lct4_4; 31; lct4_8; 32; lct4_12; 33; lct4_16; 34; lct4_20; 35; lct4_24; 36; lct4_28; 37; lct4_32; 38; lct4_36; 39; 40
part B text: XP3B; A672; 1; GND; 2; +3V3D; 3; lct2_9; 4; lct2_13; 5; lct2_17; 6; lct2_21; 7; lct2_25; 8; lct2_29; 9; lct2_33; 10; lct2_37; 11; lct2_41; 12; lct2_45; 13; lct3_1; 14; lct3_5; 15; lct3_8; 16; lct3_13; 17; lct3_17; 18; lct3_21; 19; 20; clkout80_1; 21; clkout40_1; 22; 23; lct3_25; 24; lct3_29; 25; lct3_33; 26; lct3_37; 27; lct3_41; 28; lct3_45; 29; lct4_1; 30; lct4_5; 31; lct4_9; 32; lct4_13; 33; lct4_17; 34; lct4_21; 35; lct4_25; 36; lct4_29; 37; lct4_33; 38; lct4_37; 39; 40
part C text: XP3C; A672; 1; GND; 2; +1V8D; 3; lct2_10; 4; lct2_14; 5; lct2_18; 6; lct2_22; 7; lct2_26; 8; lct2_30; 9; lct2_34; 10; lct2_38; 11; lct2_42; 12; lct2_46; 13; lct3_2; 14; lct3_6; 15; lct3_10; 16; lct3_14; 17; lct3_18; 18; lct3_22; 19; din_dly; 20; 21; +3V3D; 22; settest_dly; 23; lct3_26; 24; lct3_30; 25; lct3_34; 26; lct3_38; 27; lct3_42; 28; lct3_46; 29; lct4_2; 30; lct4_6; 31; lct4_10; 32; lct4_14; 33; lct4_18; 34; lct4_22; 35; lct4_26; 36; lct4_30; 37; lct4_34; 38; lct4_38; 39; 40
part D text: XP3D; A672; 1; GND; 2; +1V8D; 3; lct2_11; 4; lct2_15; 5; lct2_19; 6; lct2_23; 7; lct2_27; 8; lct2_31; 9; lct2_35; 10; lct2_39; 11; lct2_43; 12; lct2_47; 13; lct3_3; 14; lct3_7; 15; lct3_11; 16; lct3_15; 17; lct3_19; 18; lct3_23; 19; clk_dly; 20; 21; 22; \rs_dly; 23; lct3_27; 24; lct3_31; 25; lct3_35; 26; lct3_39; 27; lct3_43; 28; lct3_47; 29; lct4_3; 30; lct4_7; 31; lct4_11; 32; lct4_15; 33; lct4_19; 34; lct4_23; 35; lct4_27; 36; lct4_31; 37; lct4_35; 38; lct4_39; 39; 40

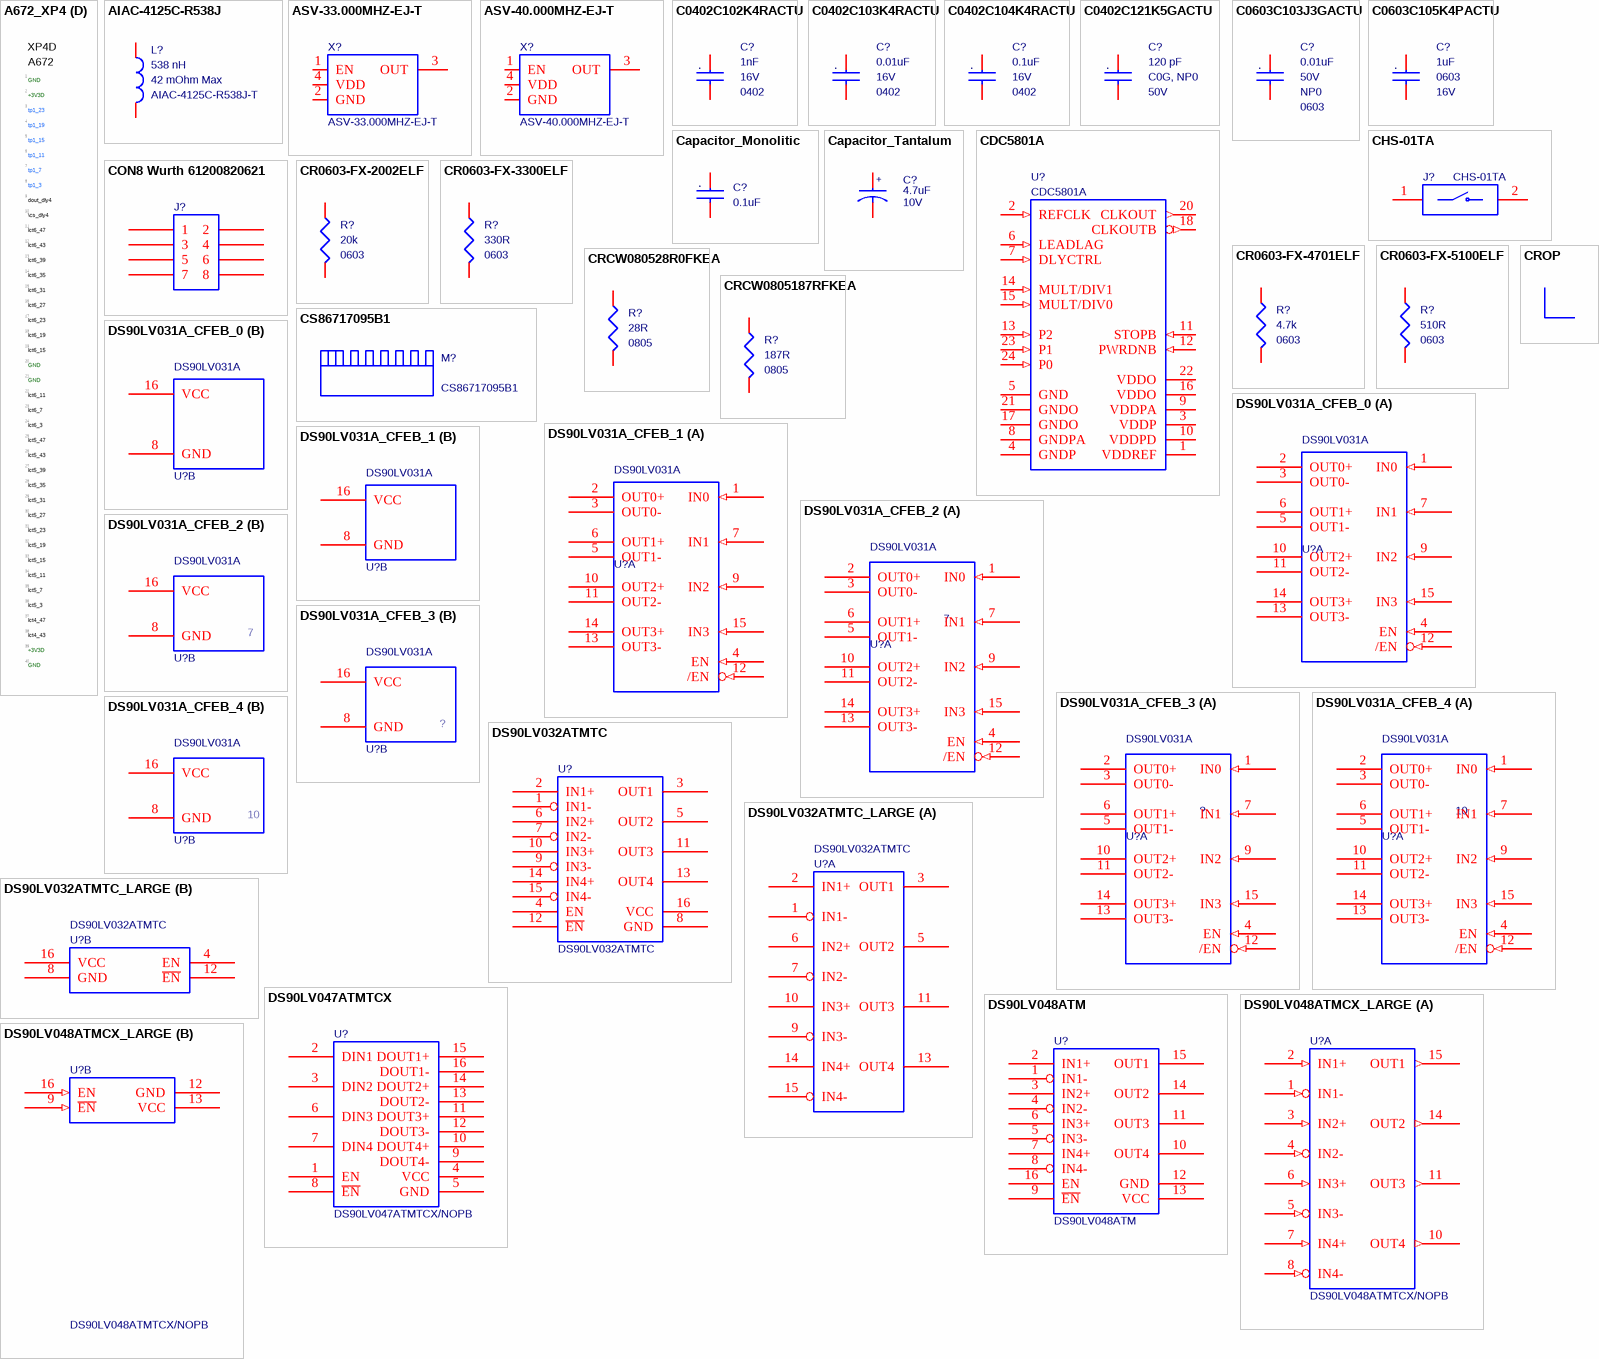
[diagram p2: symbols A672_XP4 to DS90LV048ATMCX_LARGE]

## A672_XP4
designator XP4  (value not drawn)  (graphical)
mfgr_id: MOLC-140-01-S-Q-LC; mfgr: Samtec; mfgr_foot: 40x4; COMPROT: 180; COMPGROUP: 0; COMPSIDE: TOP; Package: XP4
part A text: XP4A; A672; 1; GND; 2; +1V8D; 3; tp1_20; 4; tp1_16; 5; tp1_12; 6; tp1_8; 7; tp1_4; 8; tp1_0; 9; alct_sn; 10; 11; lct6_44; 12; lct6_40; 13; lct6_36; 14; lct6_32; 15; lct6_28; 16; lct6_24; 17; lct6_20; 18; lct6_16; 19; lct6_12; 20; 21; 22; lct6_8; 23; lct6_4; 24; lct6_0; 25; lct5_44; 26; lct5_40; 27; lct5_36; 28; lct5_32; 29; lct5_28; 30; lct5_24; 31; lct5_20; 32; lct5_16; 33; lct5_12; 34; lct5_8; 35; lct5_4; 36; lct5_0; 37; lct4_44; 38; lct4_40; 39; 40
part B text: XP4A; A672; 1; GND; 2; +1V8D; 3; tp1_21; 4; tp1_17; 5; tp1_13; 6; tp1_9; 7; tp1_5; 8; tp1_1; 9; dout_dly6; 10; \cs_dly6; 11; lct6_45; 12; lct6_41; 13; lct6_37; 14; lct6_33; 15; lct6_29; 16; lct6_25; 17; lct6_21; 18; lct6_17; 19; lct6_13; 20; 21; +3V3D; 22; lct6_9; 23; lct6_5; 24; lct6_1; 25; lct5_45; 26; lct5_41; 27; lct5_37; 28; lct5_33; 29; lct5_29; 30; lct5_25; 31; lct5_21; 32; lct5_17; 33; lct5_13; 34; lct5_9; 35; lct5_5; 36; lct5_1; 37; lct4_45; 38; lct4_41; 39; 40
part C text: XP4C; A672; 1; GND; 2; +3V3D; 3; tp1_22; 4; tp1_18; 5; tp1_14; 6; tp1_10; 7; tp1_6; 8; tp1_2; 9; dout_dly5; 10; \cs_dly5; 11; lct6_46; 12; lct6_42; 13; lct6_38; 14; lct6_34; 15; lct6_30; 16; lct6_26; 17; lct6_22; 18; lct6_18; 19; lct6_14; 20; 21; 22; lct6_10; 23; lct6_6; 24; lct6_2; 25; lct5_46; 26; lct5_42; 27; lct5_38; 28; lct5_34; 29; lct5_30; 30; lct5_26; 31; lct5_22; 32; lct5_18; 33; lct5_14; 34; lct5_10; 35; lct5_6; 36; lct5_2; 37; lct4_46; 38; lct4_42; 39; 40
part D text: XP4D; A672; 1; GND; 2; +3V3D; 3; tp1_23; 4; tp1_19; 5; tp1_15; 6; tp1_11; 7; tp1_7; 8; tp1_3; 9; dout_dly4; 10; \cs_dly4; 11; lct6_47; 12; lct6_43; 13; lct6_39; 14; lct6_35; 15; lct6_31; 16; lct6_27; 17; lct6_23; 18; lct6_19; 19; lct6_15; 20; 21; 22; lct6_11; 23; lct6_7; 24; lct6_3; 25; lct5_47; 26; lct5_43; 27; lct5_39; 28; lct5_35; 29; lct5_31; 30; lct5_27; 31; lct5_23; 32; lct5_19; 33; lct5_15; 34; lct5_11; 35; lct5_7; 36; lct5_3; 37; lct4_47; 38; lct4_43; 39; 40

## AIAC-4125C-R538J
designator L?, comment 538 nH  Manufacturer Part Number: AIAC-4125C-R538J-T  DC Resistance (DCR): 42 mOhm Max
IND 538NH 2A 42 MOHM SMD; Manufacturer: Abracon LLC; Type: Wirewound; Material - Core: Air; Tolerance: ±5%; Shielding: Unshielded; Q @ Freq: 100 @ 50MHz; Supplier 1: Digi-Key; RoHS: RoHS Compliant; Category: Inductors, Coils, Chokes; Stock 1: 1963; Pricing 1: 1=0.83, 10=0.725, 100=0.5175, 500=0.4347 (USD); Packaging: Cut Tape (CT); Part Status: Active; Ratings: -; Operating Temperature: -40°C ~ 125°C; Mounting Type: Surface Mount; Package / Case: Nonstandard; Supplier Device Package: -; Size / Dimension: 0.354" L x 0.173" W (9.00mm x 4.40mm); Height - Seated (Max): 0.197" (5.00mm); ComponentLink1URL: https://abracon.com/Magnetics/chips/AIAC-4125C.pdf; ComponentLink1Description: https://abracon.com/Magnetics/chips/AIAC-4125C.pdf; Supplier Part Number 1: 535-12016-1-ND
footprint AIAC-4125C-R538J
pins: 1, 2

## ASV-33.000MHZ-EJ-T
designator X?
XTAL, 33MHz, CMOS; Manufacturer: Abracon LLC; Function: Enable/Disable; Output: HCMOS; Voltage - Supply: 3.3V; Frequency Stability: ±20ppm; Current - Supply (Max): 20mA; Current - Supply (Disable) (Max): 10µA; Supplier 1: Digi-Key; Manufacturer Part Number: ASV-33.000MHZ-EJ-T; RoHS: RoHS Compliant; Category: Crystals, Oscillators, Resonators; Stock 1: 9939; Pricing 1: 1=1.73, 10=1.656, 50=1.617, 100=1.386, 500=1.3475 (USD); Packaging: Digi-Reel®; Part Status: Active; Type: XO (Standard); Frequency: 33MHz; Operating Temperature: -20°C ~ 70°C; Ratings: -; Mounting Type: Surface Mount; Package / Case: 4-SMD, No Lead; Size / Dimension: 0.276" L x 0.200" W (7.00mm x 5.08mm); Height - Seated (Max): 0.071" (1.80mm); ComponentLink1URL: http://www.abracon.com/Oscillators/ASV.pdf; ComponentLink1Description: http://www.abracon.com/Oscillators/ASV.pdf; Supplier Part Number 1: 535-9324-6-ND
footprint MC_S6/SM/XTAL-7x5.08
pins: 1 EN, 2 GND, 3 OUT, 4 VDD

## ASV-40.000MHZ-EJ-T
designator X?
XTAL, 40MHz, CMOS; Manufacturer: Abracon LLC; Function: Enable/Disable; Output: HCMOS; Voltage - Supply: 3.3V; Frequency Stability: ±20ppm; Current - Supply (Max): 25mA; Current - Supply (Disable) (Max): 10µA; Supplier 1: Digi-Key; Manufacturer Part Number: ASV-40.000MHZ-EJ-T; RoHS: RoHS Compliant; Category: Crystals and Oscillators; Stock 1: 8558; Pricing 1: 1=1.34, 10=1.186, 50=1.1074, 100=0.98, 500=0.9261 (USD); Packaging: Cut Tape (CT); Part Status: Active; Type: XO (Standard); Frequency: 40MHz; Operating Temperature: -20°C ~ 70°C; Ratings: -; Mounting Type: Surface Mount; Size / Dimension: 0.276" L x 0.200" W (7.00mm x 5.08mm); Height: 0.071" (1.80mm); Package / Case: 4-SMD, No Lead (DFN, LCC); ComponentLink1URL: http://www.abracon.com/Oscillators/ASV.pdf; ComponentLink1Description: http://www.abracon.com/Oscillators/ASV.pdf; Supplier Part Number 1: 535-9327-1-ND
footprint MC_S6/SM/XTAL-7x5.08
pins: 1 EN, 2 GND, 3 OUT, 4 VDD

## C0402C102K4RACTU
designator C?, comment 1nF  Voltage - Rated: 16V  package: 0402
CAP CER 1nF 16V X7R 0402; Manufacturer: KEMET; Manufacturer Part Number: C0402C102K4RACTU; Capacitance: 1000pF; Tolerance: ±10%; Supplier 1: Digi-Key; RoHS: RoHS Compliant; Category: Capacitors; Stock 1: 204540; Pricing 1: 1=0.1, 10=0.016, 25=0.0116, 50=0.0088, 100=0.0072, 250=0.006, 500=0.00512, 1000=0.00402, 5000=0.00336 (USD); Packaging: Cut Tape (CT); Part Status: Active; Temperature Coefficient: X7R; Operating Temperature: -55°C ~ 125°C; Features: -; Ratings: -; Applications: General Purpose; Failure Rate: -; Mounting Type: Surface Mount, MLCC; Package / Case: 0402 (1005 Metric); Size / Dimension: 0.039" L x 0.020" W (1.00mm x 0.50mm); Height - Seated (Max): -; Thickness (Max): 0.022" (0.55mm); Lead Spacing: -; Lead Style: -; ComponentLink1URL: http://www.kemet.com/docfinder?Partnumber=C0402C102K4RACTU; ComponentLink1Description: http://www.kemet.com/docfinder?Partnumber=C0402C102K4RACTU; Supplier 2: Digi-Key; Stock 2: 204540; Pricing 2: 1=0.1, 10=0.016, 25=0.0116, 50=0.0088, 100=0.0072, 250=0.006, 500=0.00512, 1000=0.00402, 5000=0.00336 (USD); Supplier Part Number 1: 399-7755-1-ND; Supplier Part Number 2: 399-7755-6-ND; VALUE: 1nF
footprint MC_S6/SM/C_0402_IPC
signal-integrity model CAP 1nF (Model Description)
pins: 1, 2
text: .

## C0402C103K4RACTU
designator C?, comment 0.01uF  Voltage - Rated: 16V  package: 0402
CAP CER 10nF 16V X7R 0402; Manufacturer: KEMET; Manufacturer Part Number: C0402C103K4RACTU; Capacitance: 10000pF; Tolerance: ±10%; Supplier 1: Digi-Key; RoHS: RoHS Compliant; Category: Capacitors; Stock 1: 605739; Pricing 1: 1=0.1, 10=0.02, 25=0.0144, 50=0.0108, 100=0.0088, 250=0.00732, 500=0.00626, 1000=0.00492, 5000=0.00412 (USD); Packaging: Cut Tape (CT); Part Status: Active; Temperature Coefficient: X7R; Operating Temperature: -55°C ~ 125°C; Features: -; Ratings: -; Applications: General Purpose; Failure Rate: -; Mounting Type: Surface Mount, MLCC; Package / Case: 0402 (1005 Metric); Size / Dimension: 0.039" L x 0.020" W (1.00mm x 0.50mm); Height - Seated (Max): -; Thickness (Max): 0.022" (0.55mm); Lead Spacing: -; Lead Style: -; ComponentLink1URL: http://www.kemet.com/docfinder?Partnumber=C0402C103K4RACTU; ComponentLink1Description: http://www.kemet.com/docfinder?Partnumber=C0402C103K4RACTU; Supplier 2: Digi-Key; Stock 2: 605739; Pricing 2: 1=0.1, 10=0.02, 25=0.0144, 50=0.0108, 100=0.0088, 250=0.00732, 500=0.00626, 1000=0.00492, 5000=0.00412 (USD); Supplier Part Number 1: 399-1038-1-ND; Supplier Part Number 2: 399-1038-6-ND
footprint MC_S6/SM/C_0402_IPC
pins: 1, 2
text: .

## C0402C104K4RACTU
designator C?, comment 0.1uF  package: 0402  Voltage - Rated: 16V
CAP CER 0.1UF 16V X7R 0402; Manufacturer: KEMET; Manufacturer Part Number: C0402C104K4RACTU; Capacitance: 0.10µF; Tolerance: ±10%; Supplier 1: Digi-Key; RoHS: RoHS Compliant; Category: Capacitors; Stock 1: 3565698; Pricing 1: 1=0.11, 10=0.078, 25=0.0568, 50=0.0442, 100=0.0365, 250=0.03024, 500=0.02562, 1000=0.02121, 5000=0.01806 (USD); Packaging: Cut Tape (CT); Part Status: Active; Operating Temperature: -55°C ~ 125°C; Features: -; Ratings: -; Applications: General Purpose; Failure Rate: -; Mounting Type: Surface Mount, MLCC; Package / Case: 0402 (1005 Metric); Size / Dimension: 0.039" L x 0.020" W (1.00mm x 0.50mm); Height - Seated (Max): -; Thickness (Max): 0.022" (0.55mm); Lead Spacing: -; Lead Style: -; ComponentLink1URL: http://www.kemet.com/docfinder?Partnumber=C0402C104K4RACTU; ComponentLink1Description: http://www.kemet.com/docfinder?Partnumber=C0402C104K4RACTU; Supplier 2: Digi-Key; Stock 2: 3565998; Pricing 2: 1=0.11, 10=0.078, 25=0.0568, 50=0.0442, 100=0.0365, 250=0.03024, 500=0.02562, 1000=0.02121, 5000=0.01806 (USD); Supplier Part Number 1: 399-3521-1-ND; Supplier Part Number 2: 399-3521-6-ND; Temperature Coefficient: X7R
footprint MC_S6/SM/C_0402_IPC
pins: 1, 2
text: .

## C0402C121K5GACTU
designator C?, comment 120 pF  Voltage - Rated: 50V  Temperature Coefficient: C0G, NP0
CAP CER 120 PF 50V NP0 0402; Manufacturer: KEMET; Manufacturer Part Number: C0402C121K5GACTU; Tolerance: ±10%; Notification: Current market demand for these product types have resulted in fluctuating and extending lead times. Lead times may differ.; Supplier 1: Digi-Key; RoHS: RoHS Compliant; Category: Capacitors; Stock 1: 20555; Pricing 1: 1=0.1, 10=0.04, 100=0.0176, 500=0.0126, 1000=0.0099, 2500=0.009, 5000=0.00828 (USD); Packaging: Digi-Reel®; Part Status: Active; Operating Temperature: -55°C ~ 125°C; Features: Low ESL; Ratings: -; Applications: General Purpose; Failure Rate: -; Mounting Type: Surface Mount, MLCC; Package / Case: 0402 (1005 Metric); Size / Dimension: 0.039" L x 0.020" W (1.00mm x 0.50mm); Height - Seated (Max): -; Thickness (Max): 0.022" (0.55mm); Lead Spacing: -; Lead Style: -; ComponentLink1URL: https://api.kemet.com/component-edge/download/datasheet/C0402C121K5GACTU.pdf; ComponentLink1Description: https://api.kemet.com/component-edge/download/datasheet/C0402C121K5GACTU.pdf; Supplier Part Number 1: 399-8945-6-ND
pins: 1, 2
text: .

## C0603C103J3GACTU
designator C?, comment 0.01uF  Temperature Coefficient: NP0  package: 0603  Voltage - Rated: 50V
CAP CER 10000PF 50V NP0 0603; Manufacturer: KEMET; Manufacturer Part Number: C0603C103J3GACTU; Tolerance: ±5%; Supplier 1: Digi-Key; RoHS: RoHS Compliant; Category: Capacitors; Stock 1: 190820; Pricing 1: 1=0.33, 10=0.231, 100=0.1385, 500=0.10388, 1000=0.08772 (USD); Packaging: Cut Tape (CT); Part Status: Active; Capacitance: 10000pF; Operating Temperature: -55°C ~ 125°C; Features: Low ESL; Ratings: -; Applications: General Purpose; Failure Rate: -; Mounting Type: Surface Mount, MLCC; Package / Case: 0603 (1608 Metric); Size / Dimension: 0.063" L x 0.031" W (1.60mm x 0.80mm); Height - Seated (Max): -; Thickness (Max): 0.034" (0.87mm); Lead Spacing: -; Lead Style: -; ComponentLink1URL: http://www.kemet.com/docfinder?Partnumber=C0603C103J3GACTU; ComponentLink1Description: http://www.kemet.com/docfinder?Partnumber=C0603C103J3GACTU; Supplier 2: Digi-Key; Stock 2: 190820; Pricing 2: 1=0.33, 10=0.231, 100=0.1385, 500=0.10388, 1000=0.08772 (USD); Supplier Part Number 1: 399-7838-1-ND; Supplier Part Number 2: 399-7838-6-ND
footprint MC_S6/SM/C_0603_IPC
pins: 1, 2
text: .

## C0603C105K4PACTU
designator C?, comment 1uF  Voltage - Rated: 16V  package: 0603
CAP CER 1UF 16V X5R 0603; Manufacturer: KEMET; Manufacturer Part Number: C0603C105K4PACTU; Capacitance: 1µF; Tolerance: ±10%; Supplier 1: Digi-Key; RoHS: RoHS Compliant; Category: Capacitors; Stock 1: 321137; Pricing 1: 1=0.1, 10=0.07, 25=0.0516, 50=0.04, 100=0.0331, 250=0.02744, 500=0.02324, 1000=0.01924 (USD); Packaging: Cut Tape (CT); Part Status: Active; Temperature Coefficient: X5R; Operating Temperature: -55°C ~ 85°C; Features: -; Ratings: -; Applications: General Purpose; Failure Rate: -; Mounting Type: Surface Mount, MLCC; Package / Case: 0603 (1608 Metric); Size / Dimension: 0.063" L x 0.031" W (1.60mm x 0.80mm); Height - Seated (Max): -; Thickness (Max): 0.035" (0.90mm); Lead Spacing: -; Lead Style: -; ComponentLink1URL: http://www.kemet.com/docfinder?Partnumber=C0603C105K4PACTU; ComponentLink1Description: http://www.kemet.com/docfinder?Partnumber=C0603C105K4PACTU; Supplier 2: Digi-Key; Stock 2: 321137; Pricing 2: 1=0.1, 10=0.07, 25=0.0516, 50=0.04, 100=0.0331, 250=0.02744, 500=0.02324, 1000=0.01924 (USD); Supplier Part Number 1: 399-5090-1-ND; Supplier Part Number 2: 399-5090-6-ND
footprint MC_S6/SM/C_0603_IPC
pins: 1, 2
text: .

## Capacitor_Monolitic
designator C?, comment 0.1uF
COMPSIDE: TOP; COMPGROUP: 0; mfgr_id: C0805C104K5RACTU; mfgr: Kemet; mfgr_foot: SMT0805; voltage: 50V; dielectric: X7R; COMPROT: 0
footprint GAPS/SM/C_0805
pins: 1, 2
text: .

## Capacitor_Tantalum
designator C?, comment 4.7uF  Voltage: 10V
COMPSIDE: TOP; COMPGROUP: 0; mfgr_id: ECS-T1AY475R; mfgr: Panasonic; mfgr_foot: EIA-A; COMPROT: 0
footprint FADC/SM/CT_3216_12
pins: 1, 2
text: +

## CDC5801A
designator U?
IC CLOCK MLT/DIV LOW JTTR 24QSOP; Manufacturer: Texas Instruments; Manufacturer Part Number: CDC5801ADBQ; PLL: Yes with Bypass; Input: LVCMOS, LVTTL; Output: LVDS, LVPECL, LVTTL; Number of Circuits: 1; Ratio - Input:Output: 1:1; Differential - Input:Output: No/Yes; Frequency - Max: 500MHz; Divider/Multiplier: Yes/Yes; Voltage - Supply: 3 V ~ 3.6 V; Supplier 1: Digi-Key; RoHS: RoHS Compliant; Category: Integrated Circuits (ICs); Stock 1: 121; Pricing 1: 1=9.53, 10=8.611, 100=7.1289, 500=6.20776, 1000=5.00625 (USD); Packaging: Tube; Part Status: Active; Type: PLL Multiplier/Divider; Operating Temperature: -40°C ~ 85°C; Mounting Type: Surface Mount; Package / Case: 24-SSOP (0.154", 3.90mm Width); Supplier Device Package: 24-SSOP/QSOP; ComponentLink1URL: http://www.ti.com/lit/ds/symlink/cdc5801a.pdf; ComponentLink1Description: http://www.ti.com/lit/ds/symlink/cdc5801a.pdf; Supplier Part Number 1: 296-21221-5-ND
footprint MC_S6/SM/R-PDSO-G24
pins: 1 VDDREF, 2 REFCLK (in), 3 VDDP, 4 GNDP, 5 GND, 6 LEADLAG (in), 7 DLYCTRL (in), 8 GNDPA, 9 VDDPA, 10 VDDPD, 11 STOPB (in), 12 PWRDNB (in), 13 P2 (in), 14 MULT/DIV1 (in), 15 MULT/DIV0 (in), 16 VDDO, 17 GNDO, 18 CLKOUTB (out), 19 NC hidden, 20 CLKOUT (out), 21 GNDO, 22 VDDO, 23 P1 (in), 24 P0 (in)

## CHS-01TA
designator J?
SWITCH SLIDE DIP SPST 100MA 6V; Manufacturer: Nidec Copal; Body Material: Polyphenylene; Number of Positions: 1; Electrical Life: 2000Cycles; Max Voltage Rating (DC): 24V; Pitch: 0.05inch; Washable: Yes; ComponentLink1URL: https://www.ctscorp.com/wp-content/uploads/219.pdf; ComponentLink1Description: https://www.ctscorp.com/wp-content/uploads/219.pdf; Supplier 1: Digi-Key; Manufacturer Part Number: CHS-01TA; Stock 1: 148558; Pricing 1: 1=0.98, 10=0.961, 25=0.9056, 50=0.85, 100=0.8131, 250=0.77616, 500=0.70224 (USD); Mount: Surface Mount; Contact Material: Copper Alloy; Contact Plating: Gold; Min Operating Temperature: -40°C; Max Operating Temperature: 85°C; Packaging: Tape and Reel; Throw Configuration: SPST; Voltage Rating (DC): 6V; Current Rating: 100mA; Termination: J-Hook; Orientation: Vertical; Length: 0.098inch; Lead Free: Lead Free; ComponentLink2URL: https://datasheet.ciiva.com/2863/chs-2863448.pdf; ComponentLink2Description: https://datasheet.ciiva.com/2863/chs-2863448.pdf; ComponentLink3URL: https://datasheet.ciiva.com/2863/chs-2863449.pdf; ComponentLink3Description: https://datasheet.ciiva.com/2863/chs-2863449.pdf; ComponentLink4URL: https://datasheet.ciiva.com/2863/chs-2863450.pdf; ComponentLink4Description: https://datasheet.ciiva.com/2863/chs-2863450.pdf; Supplier Part Number 1: 563-1003-1-ND
footprint CHS-01TA
pins: 1, 2

## CON8 Wurth 61200820621
designator J?, comment CON8 SMD  (value not drawn)
CONN HEADER 8 POS 2.54 SMD; Manufacturer: Wurth Electronics Inc.; Manufacturer Part Number: 61200820621; Pitch - Mating: 0.100" (2.54mm); Number of Positions: 8; Number of Positions Loaded: All; Style: Board to Cable/Wire; Shrouding: Shrouded - 4 Wall; Contact Length - Mating: 0.200" (5.08mm); Material Flammability Rating: UL94 V-0; Current Rating: 3A; Voltage Rating: 250V; Supplier 1: Digi-Key; RoHS: RoHS Compliant; Category: Connectors, Interconnects; Stock 1: 428; Pricing 1: 1=3.48, 100=3.1239, 500=2.6433 (USD); Packaging: Tube; Part Status: Active; Connector Type: Header; Contact Type: Male Pin; Number of Rows: 2; Row Spacing - Mating: 0.100" (2.54mm); Mounting Type: Surface Mount; Termination: Solder; Fastening Type: Push-Pull; Contact Length - Post: -; Overall Contact Length: -; Insulation Height: 0.365" (9.27mm); Contact Shape: Square; Contact Finish - Mating: Gold; Contact Finish Thickness - Mating: -; Contact Finish - Post: -; Contact Material: Copper Alloy; Insulation Material: Polyamide (PA6T), Nylon 6T; Features: Keying Slot, Pick and Place; Operating Temperature: -40°C ~ 125°C; Ingress Protection: -; Insulation Color: Black; Mated Stacking Heights: -; Contact Finish Thickness - Post: -; Applications: -; ComponentLink1URL: http://katalog.we-online.de/em/datasheet/6120xx20621.pdf; ComponentLink1Description: http://katalog.we-online.de/em/datasheet/6120xx20621.pdf; Supplier Part Number 1: 732-5476-5-ND
footprint MC_S6/SM/WURTH_61200820621 (8 pins, SMT, straight, gold plating)
pins: 1, 2, 3, 4, 5, 6, 7, 8

## CR0603-FX-2002ELF
designator R?, comment 20k  Supplier Device Package: 0603
RES SMD 20K OHM 1% 1/10W 0603; Manufacturer: Bourns Inc.; Manufacturer Part Number: CR0603-FX-2002ELF; Power (Watts): 0.1W, 1/10W; Temperature Coefficient: ±100ppm/°C; Supplier 1: Digi-Key; RoHS: RoHS Compliant; Category: Resistors; Stock 1: 1108; Pricing 1: 1=0.1, 10=0.021, 100=0.0086, 1000=0.00385, 2500=0.00334 (USD); Packaging: Cut Tape (CT); Part Status: Active; Tolerance: ±1%; Composition: Thick Film; Features: Moisture Resistant; Operating Temperature: -55°C ~ 155°C; Package / Case: 0603 (1608 Metric); Size / Dimension: 0.063" L x 0.032" W (1.60mm x 0.80mm); Height - Seated (Max): 0.022" (0.55mm); Failure Rate: -; ComponentLink1URL: http://www.bourns.com/docs/Product-Datasheets/CHPREZTR.pdf; ComponentLink1Description: http://www.bourns.com/docs/Product-Datasheets/CHPREZTR.pdf; Supplier 2: Digi-Key; Stock 2: 1108; Pricing 2: 1=0.1, 10=0.021, 100=0.0086, 1000=0.00385, 2500=0.00334 (USD); Supplier Part Number 1: CR0603-FX-2002ELFCT-ND; Supplier Part Number 2: CR0603-FX-2002ELFDKR-ND
footprint MC_S6/SM/R_0603_IPC
pins: 1, 2

## CR0603-FX-3300ELF
designator R?, comment 330R  Supplier Device Package: 0603
RES SMD 330 OHM 1% 1/10W 0603; Manufacturer: Bourns Inc.; Manufacturer Part Number: CR0603-FX-3300ELF; Resistance (Ohms): 330; Power (Watts): 0.1W, 1/10W; Temperature Coefficient: ±100ppm/°C; Supplier 1: Digi-Key; RoHS: RoHS Compliant; Category: Resistors; Stock 1: 45245; Pricing 1: 1=0.1, 10=0.023, 100=0.0092, 1000=0.00414, 2500=0.00359 (USD); Packaging: Cut Tape (CT); Part Status: Active; Tolerance: ±1%; Composition: Thick Film; Features: Moisture Resistant; Operating Temperature: -55°C ~ 155°C; Package / Case: 0603 (1608 Metric); Size / Dimension: 0.063" L x 0.031" W (1.60mm x 0.80mm); Height - Seated (Max): 0.022" (0.55mm); Failure Rate: -; ComponentLink1URL: http://www.bourns.com/docs/Product-Datasheets/CHPREZTR.pdf; ComponentLink1Description: http://www.bourns.com/docs/Product-Datasheets/CHPREZTR.pdf; Supplier 2: Digi-Key; Stock 2: 45245; Pricing 2: 1=0.1, 10=0.023, 100=0.0092, 1000=0.00414, 2500=0.00359 (USD); Supplier Part Number 1: CR0603-FX-3300ELFCT-ND; Supplier Part Number 2: CR0603-FX-3300ELFDKR-ND
footprint MC_S6/SM/R_0603_IPC
pins: 1, 2

## CR0603-FX-4701ELF
designator R?, comment 4.7k  Supplier Device Package: 0603
RES SMD 4.7K OHM 1% 1/10W 0603; Manufacturer: Bourns Inc.; Manufacturer Part Number: CR0603-FX-4701ELF; Power (Watts): 0.1W, 1/10W; Temperature Coefficient: ±100ppm/°C; Supplier 1: Digi-Key; RoHS: RoHS Compliant; Category: Resistors; Stock 1: 43560; Pricing 1: 1=0.1, 10=0.021, 100=0.0086, 1000=0.00385, 2500=0.00334 (USD); Packaging: Cut Tape (CT); Part Status: Active; Resistance (Ohms): 4.7k; Tolerance: ±1%; Composition: Thick Film; Features: Moisture Resistant; Operating Temperature: -55°C ~ 155°C; Package / Case: 0603 (1608 Metric); Size / Dimension: 0.063" L x 0.031" W (1.60mm x 0.80mm); Height - Seated (Max): 0.022" (0.55mm); Failure Rate: -; ComponentLink1URL: http://www.bourns.com/docs/Product-Datasheets/CHPREZTR.pdf; ComponentLink1Description: http://www.bourns.com/docs/Product-Datasheets/CHPREZTR.pdf; Supplier 2: Digi-Key; Stock 2: 43560; Pricing 2: 1=0.1, 10=0.021, 100=0.0086, 1000=0.00385, 2500=0.00334 (USD); Supplier Part Number 1: CR0603-FX-4701ELFCT-ND; Supplier Part Number 2: CR0603-FX-4701ELFDKR-ND
footprint MC_S6/SM/R_0603_IPC
pins: 1, 2

## CR0603-FX-5100ELF
designator R?, comment 510R  Supplier Device Package: 0603
RES SMD 510 OHM 1% 1/10W 0603; Manufacturer: Bourns Inc.; Manufacturer Part Number: CR0603-FX-5100ELF; Power (Watts): 0.1W, 1/10W; Temperature Coefficient: ±100ppm/°C; Supplier 1: Digi-Key; RoHS: RoHS Compliant; Category: Resistors; Stock 1: 523; Pricing 1: 1=0.1, 10=0.021, 100=0.0086, 1000=0.00385, 2500=0.00334 (USD); Packaging: Digi-Reel®; Part Status: Active; Tolerance: ±1%; Composition: Thick Film; Features: Moisture Resistant; Operating Temperature: -55°C ~ 155°C; Package / Case: 0603 (1608 Metric); Size / Dimension: 0.063" L x 0.032" W (1.60mm x 0.80mm); Height - Seated (Max): 0.022" (0.55mm); Failure Rate: -; ComponentLink1URL: https://www.bourns.com/docs/Product-Datasheets/CHPREZTR.pdf; ComponentLink1Description: https://www.bourns.com/docs/Product-Datasheets/CHPREZTR.pdf; Supplier Part Number 1: CR0603-FX-5100ELFDKR-ND
footprint MC_S6/SM/R_0603_IPC
pins: 1, 2

## CRCW080528R0FKEA
designator R?, comment 28R  Supplier Device Package: 0805
RES SMD 28 OHM 1% 1/8W 0805; Manufacturer: Vishay Dale; Manufacturer Part Number: CRCW080528R0FKEA; Resistance (Ohms): 28; Power (Watts): 0.125W, 1/8W; Temperature Coefficient: ±100ppm/°C; Supplier 1: Digi-Key; RoHS: RoHS Compliant; Category: Resistors; Stock 1: 28201; Pricing 1: 1=0.1, 10=0.04, 25=0.0288, 50=0.022, 100=0.0162, 250=0.01236, 500=0.0099, 1000=0.00729 (USD); Packaging: Cut Tape (CT); Part Status: Active; Tolerance: ±1%; Composition: Thick Film; Features: Automotive AEC-Q200; Operating Temperature: -55°C ~ 155°C; Package / Case: 0805 (2012 Metric); Size / Dimension: 0.079" L x 0.049" W (2.00mm x 1.25mm); Height - Seated (Max): 0.020" (0.50mm); Number of Terminations: 2; Failure Rate: -; ComponentLink1URL: http://www.vishay.com/docs/20035/dcrcwe3.pdf; ComponentLink1Description: http://www.vishay.com/docs/20035/dcrcwe3.pdf; Supplier 2: Digi-Key; Stock 2: 28201; Pricing 2: 1=0.1, 10=0.04, 25=0.0288, 50=0.022, 100=0.0162, 250=0.01236, 500=0.0099, 1000=0.00729 (USD); Supplier Part Number 1: 541-28.0CCT-ND; Supplier Part Number 2: 541-28.0CDKR-ND
footprint MC_S6/SM/R_0805_IPC
pins: 1, 2

## CRCW0805187RFKEA
designator R?, comment 187R  Supplier Device Package: 0805
RES SMD 187 OHM 1% 1/8W 0805; Manufacturer: Vishay Dale; Manufacturer Part Number: CRCW0805187RFKEA; Resistance (Ohms): 187; Power (Watts): 0.125W, 1/8W; Temperature Coefficient: ±100ppm/°C; Supplier 1: Digi-Key; RoHS: RoHS Compliant; Category: Resistors; Stock 1: 39809; Pricing 1: 1=0.1, 10=0.04, 25=0.0288, 50=0.022, 100=0.0162, 250=0.01236, 500=0.0099, 1000=0.00729 (USD); Packaging: Cut Tape (CT); Part Status: Active; Tolerance: ±1%; Composition: Thick Film; Features: Automotive AEC-Q200; Operating Temperature: -55°C ~ 155°C; Package / Case: 0805 (2012 Metric); Size / Dimension: 0.079" L x 0.049" W (2.00mm x 1.25mm); Height - Seated (Max): 0.020" (0.50mm); Number of Terminations: 2; Failure Rate: -; ComponentLink1URL: http://www.vishay.com/docs/20035/dcrcwe3.pdf; ComponentLink1Description: http://www.vishay.com/docs/20035/dcrcwe3.pdf; Supplier 2: Digi-Key; Stock 2: 39809; Pricing 2: 1=0.1, 10=0.04, 25=0.0288, 50=0.022, 100=0.0162, 250=0.01236, 500=0.0099, 1000=0.00729 (USD); Supplier Part Number 1: 541-187CCT-ND; Supplier Part Number 2: 541-187CDKR-ND
footprint MC_S6/SM/R_0805_IPC
pins: 1, 2

## CROP
designator CROP?  (value not drawn)  (no BOM)
footprint MC_S6/CROP

## CS86717095B1
designator M?  (mechanical)
Heatsink 17 x 17 x 9.5mm
footprint CS86717095B1

## DS90LV031A_CFEB_0
designator U?, comment DS90LV031A
footprint TSSOP16
part A pins: 1 IN0 (in), 2 OUT0+ (hiz), 3 OUT0- (hiz), 4 EN (in), 5 OUT1- (hiz), 6 OUT1+ (hiz), 7 IN1 (in), 9 IN2 (in), 10 OUT2+ (hiz), 11 OUT2- (hiz), 12 /EN (in), 13 OUT3- (hiz), 14 OUT3+ (hiz), 15 IN3 (in)
part B pins: 8 GND (power), 16 VCC (power)

## DS90LV031A_CFEB_1
designator U?, comment DS90LV031A
footprint TSSOP16
part A pins: 1 IN0 (in), 2 OUT0+ (hiz), 3 OUT0- (hiz), 4 EN (in), 5 OUT1- (hiz), 6 OUT1+ (hiz), 7 IN1 (in), 9 IN2 (in), 10 OUT2+ (hiz), 11 OUT2- (hiz), 12 /EN (in), 13 OUT3- (hiz), 14 OUT3+ (hiz), 15 IN3 (in)
part B pins: 8 GND (power), 16 VCC (power)

## DS90LV031A_CFEB_2
designator U?, comment DS90LV031A  Package: 7
footprint TSSOP16
part A pins: 1 IN0 (in), 2 OUT0+ (hiz), 3 OUT0- (hiz), 4 EN (in), 5 OUT1- (hiz), 6 OUT1+ (hiz), 7 IN1 (in), 9 IN2 (in), 10 OUT2+ (hiz), 11 OUT2- (hiz), 12 /EN (in), 13 OUT3- (hiz), 14 OUT3+ (hiz), 15 IN3 (in)
part B pins: 8 GND (power), 16 VCC (power)

## DS90LV031A_CFEB_3
designator U?, comment DS90LV031A
Package: ?
footprint TSSOP16
part A pins: 1 IN0 (in), 2 OUT0+ (hiz), 3 OUT0- (hiz), 4 EN (in), 5 OUT1- (hiz), 6 OUT1+ (hiz), 7 IN1 (in), 9 IN2 (in), 10 OUT2+ (hiz), 11 OUT2- (hiz), 12 /EN (in), 13 OUT3- (hiz), 14 OUT3+ (hiz), 15 IN3 (in)
part B pins: 8 GND (power), 16 VCC (power)

## DS90LV031A_CFEB_4
designator U?, comment DS90LV031A  Package: 10
footprint TSSOP16
part A pins: 1 IN0 (in), 2 OUT0+ (hiz), 3 OUT0- (hiz), 4 EN (in), 5 OUT1- (hiz), 6 OUT1+ (hiz), 7 IN1 (in), 9 IN2 (in), 10 OUT2+ (hiz), 11 OUT2- (hiz), 12 /EN (in), 13 OUT3- (hiz), 14 OUT3+ (hiz), 15 IN3 (in)
part B pins: 8 GND (power), 16 VCC (power)

## DS90LV032ATMTC
designator U?
IC LINE RECEIVER3V QUAD DIFF 16TSSOP
footprint MC_S6/SM/TSSOP16
pins: 1 IN1-, 2 IN1+, 3 OUT1, 4 EN (power), 5 OUT2, 6 IN2+, 7 IN2-, 8 GND (power), 9 IN3-, 10 IN3+, 11 OUT3, 12 ~{EN} (power), 13 OUT4, 14 IN4+, 15 IN4-, 16 VCC (power)

## DS90LV032ATMTC_LARGE
designator U?, comment DS90LV032ATMTC
IC LINE RECEIVER3V QUAD DIFF 16TSSOP
footprint MC_S6/SM/TSSOP16
part A pins: 1 IN1-, 2 IN1+, 3 OUT1, 5 OUT2, 6 IN2+, 7 IN2-, 9 IN3-, 10 IN3+, 11 OUT3, 13 OUT4, 14 IN4+, 15 IN4-
part B pins: 4 EN (power), 8 GND (power), 12 ~{EN} (power), 16 VCC (power)

## DS90LV047ATMTCX
designator U?, comment DS90LV047ATMTCX/NOPB
IC LINE DVR 3V QUAD DIFF 16TSSOP; Manufacturer: TI National Semiconductor; Data Rate: 400Mbps; Number of Channels: 4; Power Consumption: 14W; Operating Supply Voltage: 3.3V; Propagation Delay: 1.7ns; Max Power Dissipation: 866mW; Max Supply Voltage: 3.6V; Operating Supply Current: 30mA; Max Supply Current: 20mA; Supplier 1: Digi-Key; Manufacturer Part Number: DS90LV047ATMTCX/NOPB; Stock 1: 29207; Pricing 1: 1=2.91, 10=2.618, 100=2.104, 500=1.7286, 1000=1.43227 (USD); Mount: Surface Mount; Case/Package: TSSOP; Number of Pins: 16; Weight: 0.002222oz; Min Operating Temperature: -40°C; Max Operating Temperature: 85°C; Packaging: Tape and Reel; Number of Receivers: 4; Number of Elements: 4; Min Supply Voltage: 3V; Number of Drivers: 4; Turn-On Delay Time: 1.7ns; Power Dissipation: 866mW; Radiation Hardening: No; Lead Free: Lead Free; REACH SVHC: No SVHC; ComponentLink1URL: https://datasheet.ciiva.com/12096/snls044b-72207-12096627.pdf; ComponentLink1Description: https://datasheet.ciiva.com/12096/snls044b-72207-12096627.pdf; ComponentLink2URL: https://datasheet.ciiva.com/3151/ds90lv047a-3151495.pdf; ComponentLink2Description: https://datasheet.ciiva.com/3151/ds90lv047a-3151495.pdf; ComponentLink3URL: https://datasheet.ciiva.com/6635/ds90lv047a-6635303.pdf; ComponentLink3Description: https://datasheet.ciiva.com/6635/ds90lv047a-6635303.pdf; ComponentLink4URL: https://datasheet.ciiva.com/6635/ds90lv047a-6635304.pdf; ComponentLink4Description: https://datasheet.ciiva.com/6635/ds90lv047a-6635304.pdf; ComponentLink5URL: https://datasheet.ciiva.com/6635/ds90lv047a-6635305.pdf; ComponentLink5Description: https://datasheet.ciiva.com/6635/ds90lv047a-6635305.pdf; ComponentLink6URL: https://datasheet.ciiva.com/15133/getdatasheetpartid-55660-15133789.pdf; ComponentLink6Description: https://datasheet.ciiva.com/15133/getdatasheetpartid-55660-15133789.pdf; Supplier Part Number 1: DS90LV047ATMTCX/NOPBDKR-ND
footprint MC_S6/SM/TSSOP16
pins: 1 EN (power), 2 DIN1 (power), 3 DIN2 (power), 4 VCC (power), 5 GND (power), 6 DIN3 (power), 7 DIN4 (power), 8 ~{EN} (power), 9 DOUT4- (power), 10 DOUT4+ (power), 11 DOUT3+ (power), 12 DOUT3- (power), 13 DOUT2- (power), 14 DOUT2+ (power), 15 DOUT1+ (power), 16 DOUT1- (power)

## DS90LV048ATM
designator U?
IC LINE RECEIVER 3V QUAD DIFF 16TSSOP
footprint MC_S6/SM/TSSOP16
pins: 1 IN1-, 2 IN1+, 3 IN2+, 4 IN2-, 5 IN3-, 6 IN3+, 7 IN4+, 8 IN4- (power), 9 ~{EN}, 10 OUT4, 11 OUT3 (power), 12 GND, 13 VCC, 14 OUT2, 15 OUT1 (power), 16 EN

## DS90LV048ATMCX_LARGE
designator U?, comment DS90LV048ATMTCX/NOPB
IC LINE RECEIVER 3V QUAD DIFF 16TSSOP; Manufacturer: TI National Semiconductor; Description: IC LINE RVR 3V QUAD DIFF 16TSSOP; Operating Supply Voltage: 3.3V; Propagation Delay: 2.7ns; Number of Elements: 4; Max Power Dissipation: 866mW; Max Supply Voltage: 3.6V; Data Rate: 400Mbps; Operating Supply Current: 15mA; Max Supply Current: 9mA; Power Consumption: 30W; Max Input Voltage: 0uV; Min Input Voltage: -100mV; Supplier 1: Digi-Key; Manufacturer Part Number: DS90LV048ATMTCX/NOPB; Stock 1: 55591; Pricing 1: 1=2.91, 10=2.618, 100=2.104, 500=1.7286, 1000=1.43227 (USD); Mount: Surface Mount; Case/Package: TSSOP; Number of Pins: 16; Weight: 0.002222oz; Min Operating Temperature: -40°C; Max Operating Temperature: 85°C; Packaging: Tape and Reel; Number of Receivers: 4; Package Quantity: 2500; Min Supply Voltage: 3V; Number of Drivers: 4; Turn-On Delay Time: 2.7ns; Power Dissipation: 866mW; Number of Channels: 4; Logic Function: Receiver; Length: 5mm; Height: 0.9mm; Width: 4.4mm; Radiation Hardening: No; REACH SVHC: No SVHC; Lead Free: Lead Free; ComponentLink1URL: https://datasheet.ciiva.com/6635/ds90lv048a-6635703.pdf; ComponentLink1Description: https://datasheet.ciiva.com/6635/ds90lv048a-6635703.pdf; ComponentLink2URL: https://datasheet.ciiva.com/26001/ds90lv048a-26001784.pdf; ComponentLink2Description: https://datasheet.ciiva.com/26001/ds90lv048a-26001784.pdf; ComponentLink3URL: https://datasheet.ciiva.com/15133/getdatasheetpartid-647745-15133146.pdf; ComponentLink3Description: https://datasheet.ciiva.com/15133/getdatasheetpartid-647745-15133146.pdf; ComponentLink4URL: https://datasheet.ciiva.com/3151/ds90lv048a-3151499.pdf; ComponentLink4Description: https://datasheet.ciiva.com/3151/ds90lv048a-3151499.pdf; Supplier Part Number 1: DS90LV048ATMTCX/NOPBDKR-ND
footprint MC_S6/SM/TSSOP16
part A pins: 1 IN1- (in), 2 IN1+ (in), 3 IN2+ (in), 4 IN2- (in), 5 IN3- (in), 6 IN3+ (in), 7 IN4+ (in), 8 IN4- (in), 10 OUT4 (out), 11 OUT3 (out), 14 OUT2 (out), 15 OUT1 (out)
part B pins: 9 ~{EN} (in), 12 GND (power), 13 VCC (power), 16 EN (in)

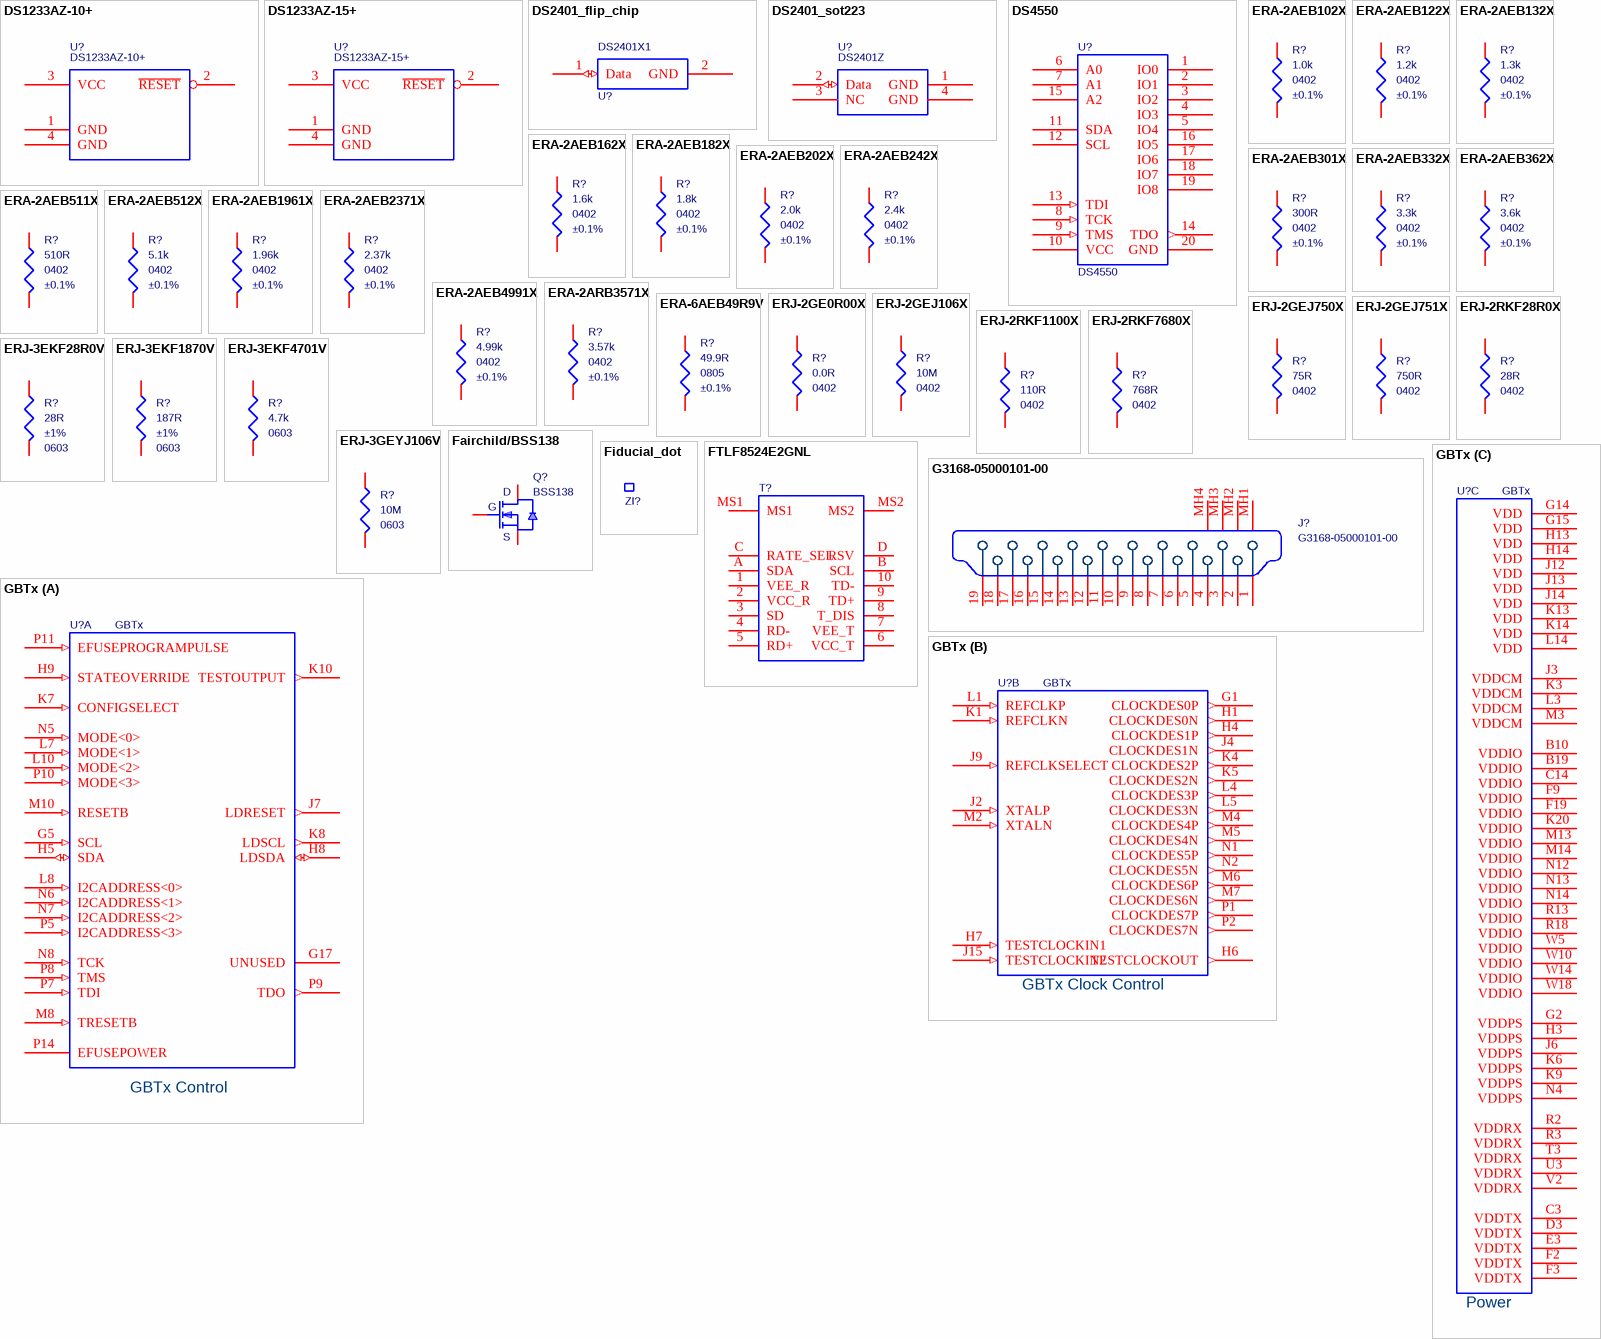
[diagram p3: symbols DS1233AZ-10+ to GBTx]

## DS1233AZ-10+
designator U?
IC POR 2.88V 10% SOT223; Manufacturer: Maxim Integrated; Manufacturer Part Number: DS1233AZ-10+T&R; Output: Open Drain or Open Collector; Reset: Active Low; Reset Timeout: 250 ms Minimum; Supplier 1: Digi-Key; RoHS: RoHS Compliant; Category: Integrated Circuits (ICs); Stock 1: 3429; Pricing 1: 1=2.14, 10=2.015, 25=1.6116, 50=1.531, 100=1.4102, 250=1.33764, 500=1.28928 (USD); Packaging: Cut Tape (CT); Part Status: Active; Type: Simple Reset/Power-On Reset; Voltage - Threshold: 2.88V; Operating Temperature: -40°C ~ 85°C (TA); Mounting Type: Surface Mount; Package / Case: TO-261-4, TO-261AA; Supplier Device Package: SOT-223-3; ComponentLink1URL: http://datasheets.maximintegrated.com/en/ds/DS1233A.pdf; ComponentLink1Description: http://datasheets.maximintegrated.com/en/ds/DS1233A.pdf; Supplier 2: Digi-Key; Stock 2: 2849; Pricing 2: 1=2.55, 10=2.423, 25=1.7, 50=1.615, 100=1.26, 250=1.197 (USD); Supplier 3: Digi-Key; Stock 3: 3429; Pricing 3: 1=2.14, 10=2.015, 25=1.6116, 50=1.531, 100=1.4102, 250=1.33764, 500=1.28928 (USD); Supplier Part Number 1: DS1233AZ-10+CT-ND; Supplier Part Number 2: DS1233AZ-10+-ND; Supplier Part Number 3: DS1233AZ-10+DKR-ND
footprint MC_S6/SM/SOT223_1234
pins: 1 GND (power), 2 ~{RESET} (oc), 3 VCC (power), 4 GND (power)